# Altium schematic symbol library CS_symbols.SchLib: 156 symbols (part 1 of 2)
Pins are listed as number, name and electrical type; pins without a type are passive.

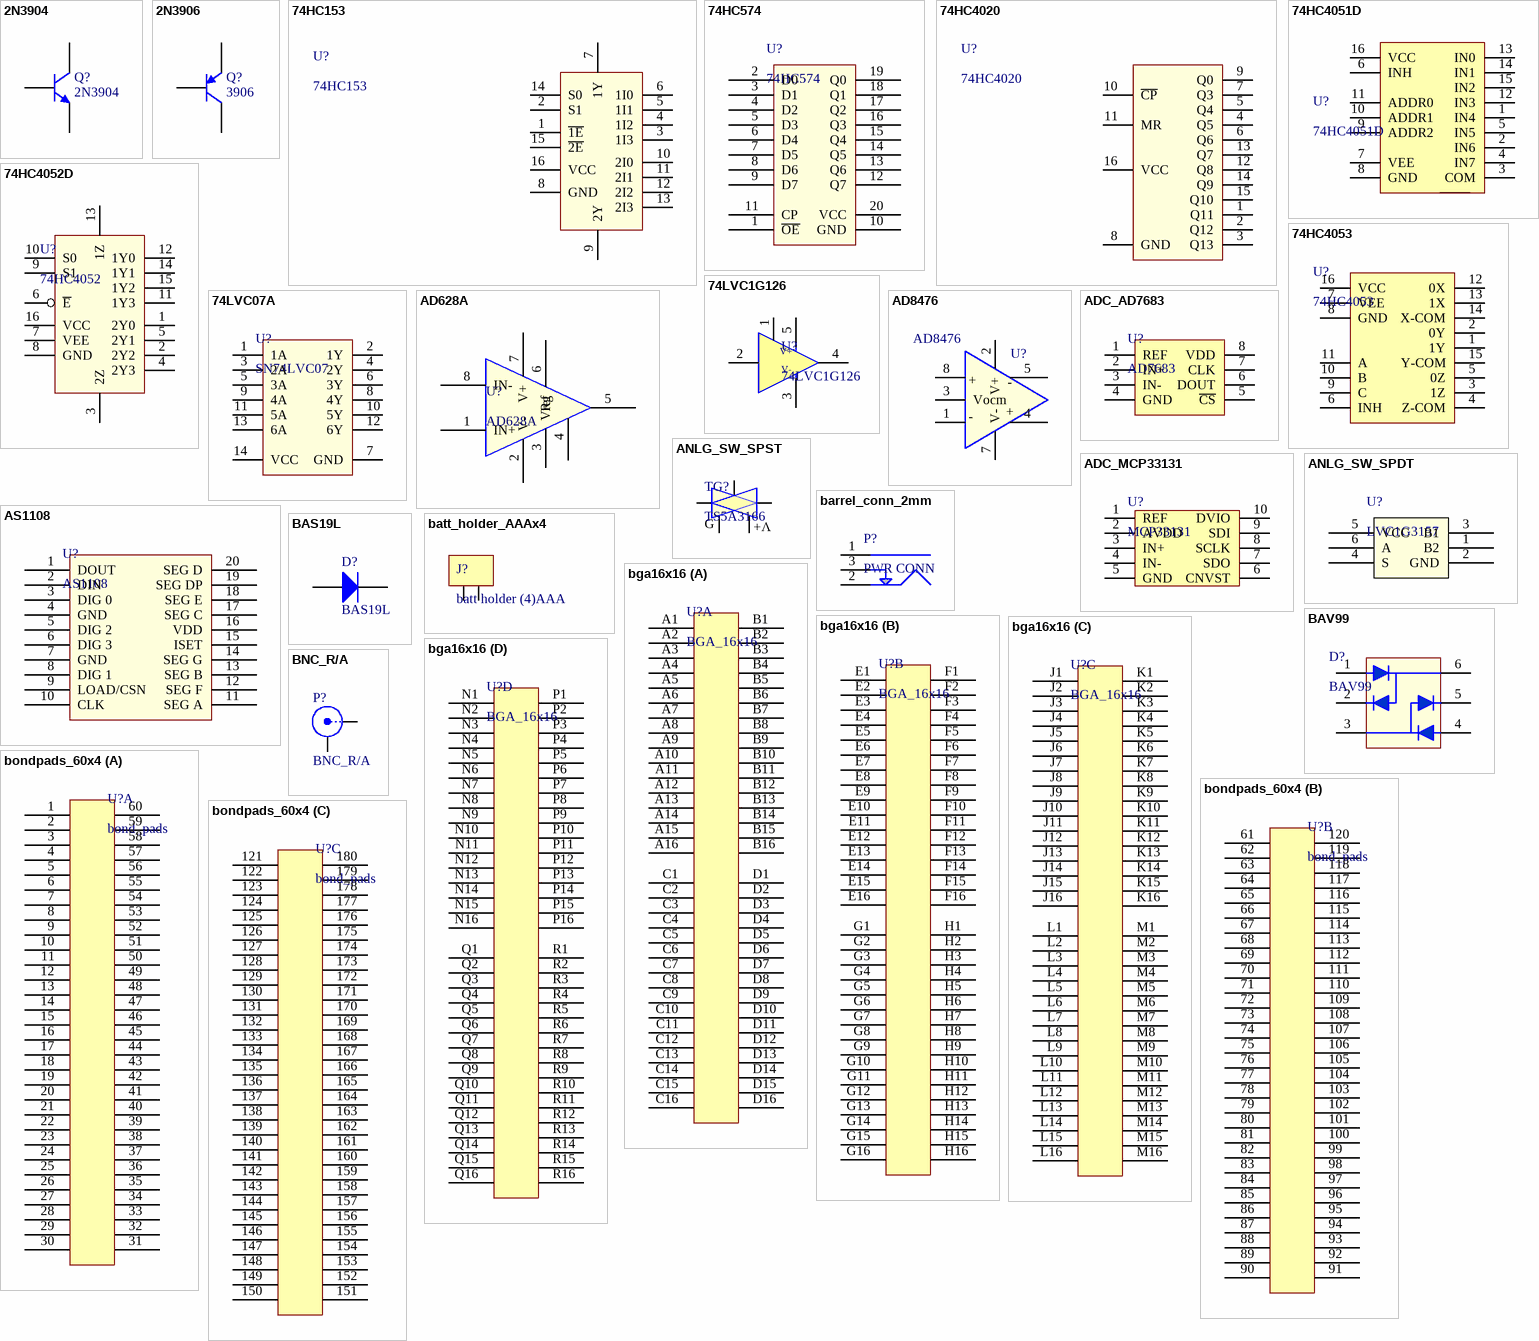
[diagram p0: symbols 2N3904 to bondpads_60x4]

## 2N3904
designator Q?
TRANS NPN 40V 0.2A SOT23; manufacturer: Micro Commercial Co; manufacturer pn: MMBT3904-TP; supplier: digikey; supplier pn: MMBT3904TPMSCT-ND
footprint SOT-23 (Footprint not found)
pins: 1 C, 2 B, 3 E

## 2N3906
designator Q?, comment 3906
TRANS PNP 40V 0.2A SOT23; manufacturer pn: MMBT3906-TP; manufacturer: Micro Commercial Co; supplier pn: MMBT3906-TPCT-ND; supplier: digikey
footprint SOT-23
pins: 1 C, 2 B, 3 E

## 74HC153
designator U?
IC MULTIPLEXER 2 X 4:1 16SOIC; manufacturer: Texas Instruments; manufacturer pn: CD74HCT153M96; supplier: digikey; supplier pn: 296-CD74HCT153M96CT-ND
footprint SOIC-16
pins: 1 ~{1E}, 2 S1, 3 1I3, 4 1I2, 5 1I1, 6 1I0, 7 1Y, 8 GND, 9 2Y, 10 2I0, 11 2I1, 12 2I2, 13 2I3, 14 S0, 15 ~{2E}, 16 VCC

## 74HC574
designator U?
D-type flip-flop; Octal; manufacturer pn: 74HC574PW,118; manufacturer: Nexperia; supplier pn: 1727-4015-1-ND; supplier: digikey
pins: 1 ~{OE}, 2 D0, 3 D1, 4 D2, 5 D3, 6 D4, 7 D5, 8 D6, 9 D7, 10 GND, 11 CP, 12 Q7, 13 Q6, 14 Q5, 15 Q4, 16 Q3, 17 Q2, 18 Q1, 19 Q0, 20 VCC

## 74HC4020
designator U?
14-Stage Binary Ripple Counter; manufacturer: Nexperia; manufacturer pn: 74HCT4020D,653; supplier pn: 1727-7989-1-ND; supplier: digikey
footprint SOIC-16
pins: 1 Q11, 2 Q12, 3 Q13, 4 Q5, 5 Q4, 6 Q6, 7 Q3, 8 GND, 9 Q0, 10 ~{CP}, 11 MR, 12 Q8, 13 Q7, 14 Q9, 15 Q10, 16 VCC

## 74HC4051D
designator U?
IC MUX 8:1 4 OHM 16SOIC; manufacturer: Toshiba; supplier pn: 74HC4051DCT-ND; supplier: digikey; manufacturer pn: 74HC4051D
pins: 1 IN4, 2 IN6, 3 COM, 4 IN7, 5 IN5, 6 INH, 7 VEE, 8 GND, 9 ADDR2, 10 ADDR1, 11 ADDR0, 12 IN3, 13 IN0, 14 IN1, 15 IN2, 16 VCC

## 74HC4052D
designator U?, comment 74HC4052
IC MUX/DEMUX DUAL 4X1 16SOIC; manufacturer: NXP Inc.; manufacturer pn: 74HC4052D,653; supplier: digikey; supplier pn: 1727-2808-1-ND
footprint SOIC-16
pins: 1 2Y0, 2 2Y2, 3 2Z, 4 2Y3, 5 2Y1, 6 ~{E}, 7 VEE, 8 GND, 9 S1, 10 S0, 11 1Y3, 12 1Y0, 13 1Z, 14 1Y1, 15 1Y2, 16 VCC

## 74HC4053
designator U?
IC SWITCH TRIPLE 16SOIC; manufacturer: Toshiba; manufacturer pn: 74HC4053D(BJ); supplier: digikey; supplier pn: 74HC4053D(BJ)CT-ND
footprint SOIC-16
pins: 1 1Y, 2 0Y, 3 1Z, 4 Z-COM, 5 0Z, 6 INH, 7 VEE, 8 GND, 9 C, 10 B, 11 A, 12 0X, 13 1X, 14 X-COM, 15 Y-COM, 16 VCC

## 74LVC1G126
designator U?
IC BUFFER NON-INVERT 5.5V SOT25; manufacturer pn: 74LVC1G126W5-7; manufacturer: Diodes inc; supplier pn: 74LVC1G126W5-7DICT-ND; supplier: digikey
footprint SOT23-5
pins: 1 OE, 2 A, 3 -V (power), 4 Y, 5 +V (power)
text: V+; V-

## 74LVC07A
designator U?, comment SN74LVC07
IC HEX BUF NON-INVERT 5.5V 14SOIC; manufacturer: Texas Instruments; manufacturer pn: SN74LVC07ADR; supplier pn: 296-8441-1-ND; supplier: digikey
footprint SOIC-14 (SOIC, 14-Leads, Body 8.65x3.9mm, Pitch 1.27mm, IPC Medium Density)
pins: 1 1A, 2 1Y, 3 2A, 4 2Y, 5 3A, 6 3Y, 7 GND, 8 4Y, 9 4A, 10 5Y, 11 5A, 12 6Y, 13 6A, 14 VCC

## AD628A
designator U?
Current Sense Differential Amplifier 600kHz; manufacturer pn: AD628ARZ-RL; manufacturer: Analog Devices; supplier: digikey; supplier pn: AD628ARZ-RLCT-ND
footprint Model Name (Footprint not found)
pins: 1 IN+, 2 V-, 3 Vref, 4 Cf, 5 OUT, 6 Rg, 7 V+, 8 IN-

## AD8476
designator U?
IC OPAMP DIFF 1 CIRCUIT 8MSOP; manufacturer pn: AD8476ARMZ-RL; manufacturer: Analog Devices Inc.; supplier: digikey; supplier pn: AD8476ARMZ-RLCT-ND
footprint MSOP-8
pins: 1 IN-, 2 V+, 3 Vocm, 4 Vout+, 5 Vout-, 7 V-, 8 IN+
text: +; -

## ADC_AD7683
designator U?, comment AD7683
IC ADC 16BIT SAR 8MSOP; manufacturer pn: AD7683ARMZRL7; manufacturer: Analog Devices; supplier: digikey; supplier pn: AD7683ARMZRL7CT-ND
footprint MSOP-8
pins: 1 REF, 2 IN+, 3 IN-, 4 GND, 5 ~{CS}, 6 DOUT, 7 CLK, 8 VDD

## ADC_MCP33131
designator U?, comment MCP33131
IC ADC 16BIT SAR 10MSOP; manufacturer pn: MCP33131D-10T-I/MS; manufacturer: Microchip Technology; supplier: digikey; supplier pn: MCP33131D-10T-I/MSCT-ND
footprint MSOP-10
pins: 1 REF, 2 AVDD, 3 IN+, 4 IN-, 5 GND, 6 CNVST, 7 SDO, 8 SCLK, 9 SDI, 10 DVIO

## ANLG_SW_SPDT
designator U?, comment LVC1G3157
IC SWITCH SPDT X 1 15OHM SOT23-6; manufacturer: Texas Instruments; manufacturer pn: SN74LVC1G3157DBVR; supplier: digikey; supplier pn: 296-14908-1-ND
footprint SOT23-6
pins: 1 B2 "zener diode cathode", 2 GND "zener diode cathode", 3 B1 "zener diode cathode", 4 S "zener diode cathode", 5 VCC "zener diode cathode", 6 A "zener diode cathode"

## ANLG_SW_SPST
designator TG?, comment TS5A3166
IC SW SPST-NOX1 900MOHM SOT23-5; manufacturer pn: TS5A3166DBVR; manufacturer: Texas Instruments; supplier: digikey; supplier pn: 296-17740-1-ND
footprint SOT23-5
pins: 1 IN "zener diode cathode", 2 OUT "zener diode cathode", 3 GND "zener diode cathode", 4 CTL "zener diode cathode", 5 V+ "zener diode cathode"
text: G

## AS1108
designator U?
IC DRVR 7 SEGMNT 4 DIGIT 20SOIC; manufacturer: AMS; manufacturer pn: AS1108WL-T; supplier: digikey; supplier pn: AS1108WL-TCT-ND
footprint SOIC-20 (small outline integrated ciecuit 20-pin)
pins: 1 DOUT, 2 DIN, 3 DIG 0, 4 GND, 5 DIG 2, 6 DIG 3, 7 GND, 8 DIG 1, 9 LOAD/CSN, 10 CLK, 11 SEG A, 12 SEG F, 13 SEG B, 14 SEG G, 15 ISET, 16 VDD, 17 SEG C, 18 SEG E, 19 SEG DP, 20 SEG D

## barrel_conn_2mm
designator P?, comment PWR CONN
CONN PWR JACK 2X5.5MM KINKED PIN; manufacturer: CUI Int; manufacturer pn: PJ-202A; supplier: digikey; supplier pn: CP-202A-ND
footprint barrel_conn_2mm (Power Barrel connector Jack 2.0mm ID, 5.5mm OD)
pins: 1 CTR, 2 SHIELD, 3 SENSE

## BAS19L
designator D?
DIODE GP 120V 200MA SOT23-3; manufacturer: On Semiconductor; manufacturer pn: BAS19LT3G; supplier pn: BAS19LT3GOSCT-ND; supplier: digikey
footprint SOT-23
pins: 1 K, 2 A

## batt_holder_AAAx4
designator J?, comment batt holder (4)AAA
2-pin jumper; manufacturer: Keystone Electronics; manufacturer pn: 2481; supplier: digikey; supplier pn: 36-2481-ND
pins: 1, 2

## BAV99
designator D?
DIODE SW 75V 215MA SOT363; manufacturer: Diodes Inc.; manufacturer pn: BAV99DWQ-7-F; supplier: digikey; supplier pn: BAV99DWQ-7-FDICT-ND
footprint SOT363 (Footprint not found)
pins: 1 A1, 2 C1, 3 AC2, 4 A2, 5 C2, 6 AC1

## bga16x16
designator U?, comment BGA_16x16
bga used in wirebonding board
footprint die_balls (pads to be balled on bottom side of die breakout board)
part A pins: A1, A2, A3, A4, A5, A6, A7, A8, A9, A10, A11, A12, A13, A14, A15, A16, B1, B2, B3, B4, B5, B6, B7, B8, B9, B10, B11, B12, B13, B14, B15, B16, C1, C2, C3, C4, C5, C6, C7, C8, C9, C10, C11, C12, C13, C14, C15, C16, D1, D2, D3, D4, D5, D6, D7, D8, D9, D10, D11, D12, D13, D14, D15, D16
part B pins: E1, E2, E3, E4, E5, E6, E7, E8, E9, E10, E11, E12, E13, E14, E15, E16, F1, F2, F3, F4, F5, F6, F7, F8, F9, F10, F11, F12, F13, F14, F15, F16, G1, G2, G3, G4, G5, G6, G7, G8, G9, G10, G11, G12, G13, G14, G15, G16, H1, H2, H3, H4, H5, H6, H7, H8, H9, H10, H11, H12, H13, H14, H15, H16
part C pins: J1, J2, J3, J4, J5, J6, J7, J8, J9, J10, J11, J12, J13, J14, J15, J16, K1, K2, K3, K4, K5, K6, K7, K8, K9, K10, K11, K12, K13, K14, K15, K16, L1, L2, L3, L4, L5, L6, L7, L8, L9, L10, L11, L12, L13, L14, L15, L16, M1, M2, M3, M4, M5, M6, M7, M8, M9, M10, M11, M12, M13, M14, M15, M16
part D pins: N1, N2, N3, N4, N5, N6, N7, N8, N9, N10, N11, N12, N13, N14, N15, N16, P1, P2, P3, P4, P5, P6, P7, P8, P9, P10, P11, P12, P13, P14, P15, P16, Q1, Q2, Q3, Q4, Q5, Q6, Q7, Q8, Q9, Q10, Q11, Q12, Q13, Q14, Q15, Q16, R1, R2, R3, R4, R5, R6, R7, R8, R9, R10, R11, R12, R13, R14, R15, R16

## BNC_R/A
designator P?
CONN BNC RCPT R/A 50 OHM PCB; manufacturer: Molex; manufacturer pn: 0731375003; supplier: digikey; supplier pn: WM5514-ND
footprint BNC_R/A (Right Angle BNC Connector PCB Mount)
pins: 1 PIN, 2 SHIELD

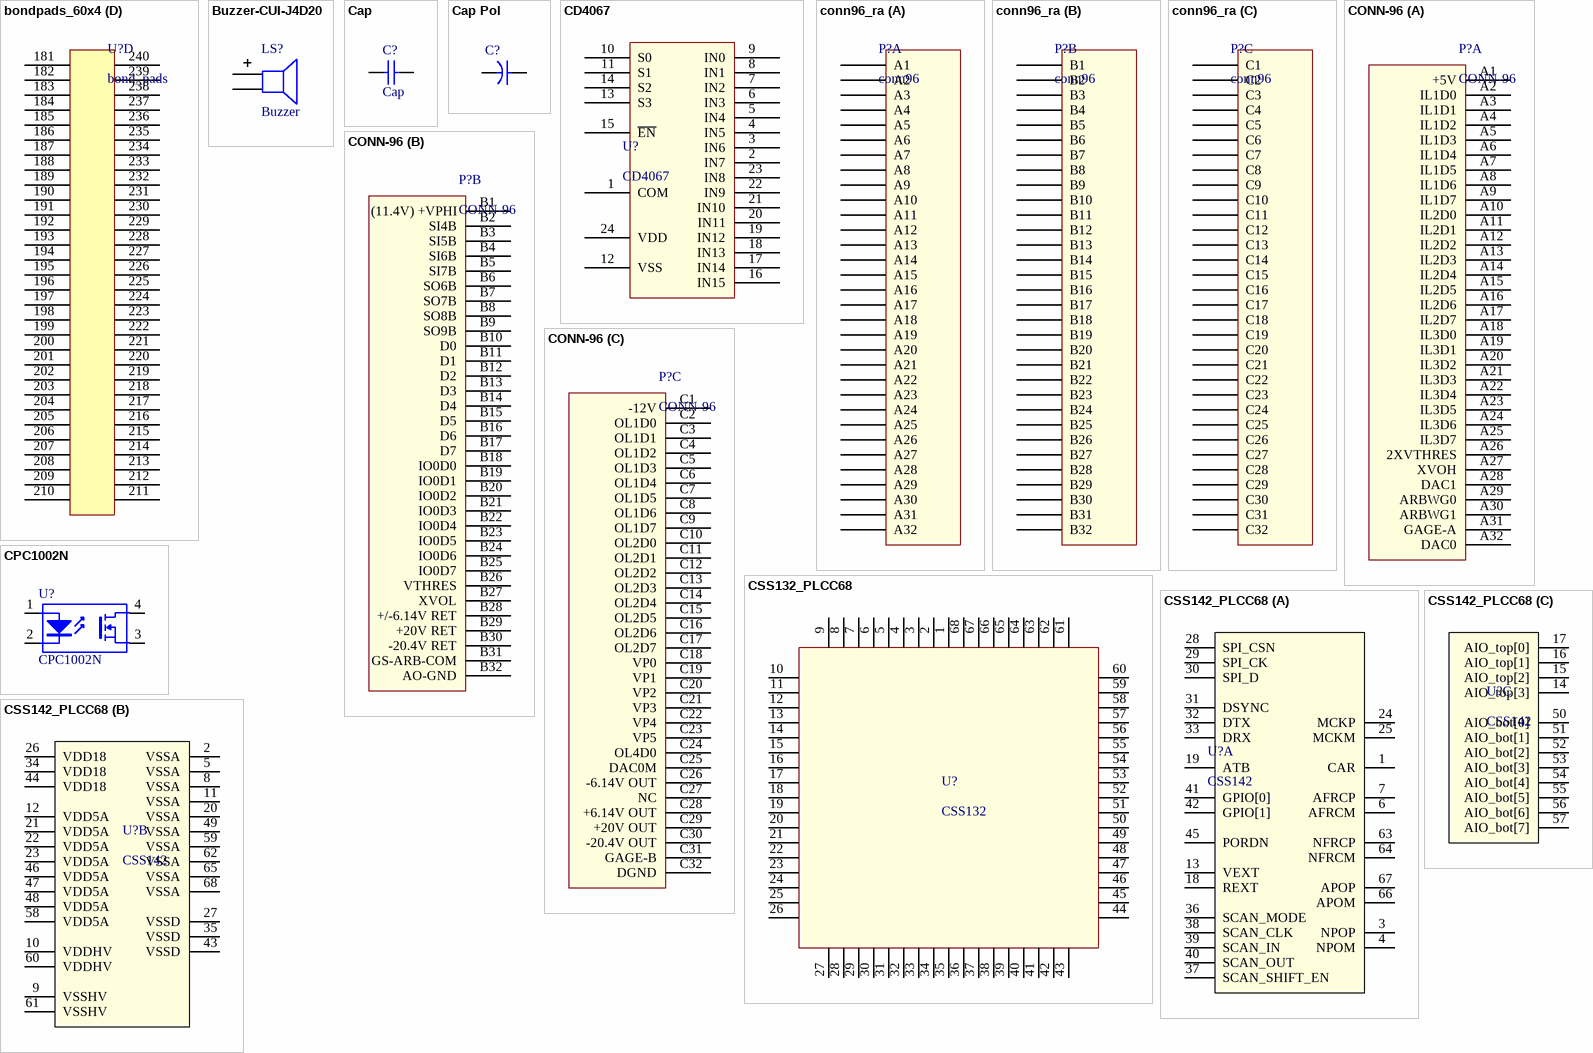
[diagram p1: symbols bondpads_60x4 to CSS142_PLCC68]

## bondpads_60x4
designator U?, comment bond_pads
wirebond pads 3mil x 5mil arranged in a square
footprint wirebond_pads_4x60 (group of 4x60 wirebond pads 5mil wide, 3mil high, 3mil spacing)
part A pins: 1, 2, 3, 4, 5, 6, 7, 8, 9, 10, 11, 12, 13, 14, 15, 16, 17, 18, 19, 20, 21, 22, 23, 24, 25, 26, 27, 28, 29, 30, 31, 32, 33, 34, 35, 36, 37, 38, 39, 40, 41, 42, 43, 44, 45, 46, 47, 48, 49, 50, 51, 52, 53, 54, 55, 56, 57, 58, 59, 60
part B pins: 61, 62, 63, 64, 65, 66, 67, 68, 69, 70, 71, 72, 73, 74, 75, 76, 77, 78, 79, 80, 81, 82, 83, 84, 85, 86, 87, 88, 89, 90, 91, 92, 93, 94, 95, 96, 97, 98, 99, 100, 101, 102, 103, 104, 105, 106, 107, 108, 109, 110, 111, 112, 113, 114, 115, 116, 117, 118, 119, 120
part C pins: 121, 122, 123, 124, 125, 126, 127, 128, 129, 130, 131, 132, 133, 134, 135, 136, 137, 138, 139, 140, 141, 142, 143, 144, 145, 146, 147, 148, 149, 150, 151, 152, 153, 154, 155, 156, 157, 158, 159, 160, 161, 162, 163, 164, 165, 166, 167, 168, 169, 170, 171, 172, 173, 174, 175, 176, 177, 178, 179, 180
part D pins: 181, 182, 183, 184, 185, 186, 187, 188, 189, 190, 191, 192, 193, 194, 195, 196, 197, 198, 199, 200, 201, 202, 203, 204, 205, 206, 207, 208, 209, 210, 211, 212, 213, 214, 215, 216, 217, 218, 219, 220, 221, 222, 223, 224, 225, 226, 227, 228, 229, 230, 231, 232, 233, 234, 235, 236, 237, 238, 239, 240

## Buzzer-CUI-J4D20
designator LS?, comment Buzzer
AUDIO MAGNETIC XDCR 3-5V SMD; manufacturer: CUI Devices; manufacturer pn: CSS-J4D20-SMT-TR; supplier pn: 102-1198-1-ND; supplier: digikey
footprint Buzzer_J4D20 (AUDIO MAGNETIC XDCR 3-5V SMD)
pins: 1, 2

## Cap
designator C?
Cap NP
pins: 1, 2

## Cap Pol
designator C?, comment CapPol  (value not drawn)
Cap Polarized
footprint RB7.6-15 (Polarized Capacitor (Radial); 2 Leads)
simulation model CAP (Capacitor)
signal-integrity model Cap Pol
pins: 1, 2
1 alternate drawing of the same symbol

## CD4067
designator U?
IC MUX/DEMUX 1X16 24TSSOP; manufacturer: Texas Instruments; manufacturer pn: CD4067BPWR; supplier: digikey; supplier pn: 296-44349-1-ND
pins: 1 COM, 2 IN7, 3 IN6, 4 IN5, 5 IN4, 6 IN3, 7 IN2, 8 IN1, 9 IN0, 10 S0, 11 S1, 12 VSS, 13 S3, 14 S2, 15 ~{EN}, 16 IN15, 17 IN14, 18 IN13, 19 IN12, 20 IN11, 21 IN10, 22 IN9, 23 IN8, 24 VDD

## conn96_ra
designator P?, comment conn96
connector 96-pin right angle 32x3; manufacturer pn: RE96MSR-062; manufacturer: Vector Electronics; supplier pn: V1235-ND; supplier: digikey
footprint conn-96_RA (96-pin connector, 3 rows, right angle)
part A pins: A1, A2, A3, A4, A5, A6, A7, A8, A9, A10, A11, A12, A13, A14, A15, A16, A17, A18, A19, A20, A21, A22, A23, A24, A25, A26, A27, A28, A29, A30, A31, A32
part B pins: B1, B2, B3, B4, B5, B6, B7, B8, B9, B10, B11, B12, B13, B14, B15, B16, B17, B18, B19, B20, B21, B22, B23, B24, B25, B26, B27, B28, B29, B30, B31, B32
part C pins: C1, C2, C3, C4, C5, C6, C7, C8, C9, C10, C11, C12, C13, C14, C15, C16, C17, C18, C19, C20, C21, C22, C23, C24, C25, C26, C27, C28, C29, C30, C31, C32

## CONN-96
designator P?
connector 96-pin male right angle 32x3; manufacturer pn: RE96MSR-062; manufacturer: Vector Electronics; supplier pn: V1235-ND; supplier: digikey
footprint conn-96_RA (96-pin connector, 3 rows, right angle)
part A pins: A1 +5V, A2 IL1D0, A3 IL1D1, A4 IL1D2, A5 IL1D3, A6 IL1D4, A7 IL1D5, A8 IL1D6, A9 IL1D7, A10 IL2D0, A11 IL2D1, A12 IL2D2, A13 IL2D3, A14 IL2D4, A15 IL2D5, A16 IL2D6, A17 IL2D7, A18 IL3D0, A19 IL3D1, A20 IL3D2, A21 IL3D3, A22 IL3D4, A23 IL3D5, A24 IL3D6, A25 IL3D7, A26 2XVTHRES, A27 XVOH, A28 DAC1, A29 ARBWG0, A30 ARBWG1, A31 GAGE-A, A32 DAC0
part B pins: B1 (11.4V) +VPHI, B2 SI4B, B3 SI5B, B4 SI6B, B5 SI7B, B6 SO6B, B7 SO7B, B8 SO8B, B9 SO9B, B10 D0, B11 D1, B12 D2, B13 D3, B14 D4, B15 D5, B16 D6, B17 D7, B18 IO0D0, B19 IO0D1, B20 IO0D2, B21 IO0D3, B22 IO0D4, B23 IO0D5, B24 IO0D6, B25 IO0D7, B26 VTHRES, B27 XVOL, B28 +/-6.14V RET, B29 +20V RET, B30 -20.4V RET, B31 GS-ARB-COM, B32 AO-GND
part C pins: C1 -12V, C2 OL1D0, C3 OL1D1, C4 OL1D2, C5 OL1D3, C6 OL1D4, C7 OL1D5, C8 OL1D6, C9 OL1D7, C10 OL2D0, C11 OL2D1, C12 OL2D2, C13 OL2D3, C14 OL2D4, C15 OL2D5, C16 OL2D6, C17 OL2D7, C18 VP0, C19 VP1, C20 VP2, C21 VP3, C22 VP4, C23 VP5, C24 OL4D0, C25 DAC0M, C26 -6.14V OUT, C27 NC, C28 +6.14V OUT, C29 +20V OUT, C30 -20.4V OUT, C31 GAGE-B, C32 DGND

## CPC1002N
designator U?
4-Pin Phototransistor Optocoupler; manufacturer: IXYS; supplier pn: CLA221-ND; supplier: digikey; manufacturer pn: CPC1002N
pins: 1 A "Anode", 2 K "Cathode", 3 S "Emitter", 4 D "Collector"

## CSS132_PLCC68
designator U?, comment CSS132
CSS132 gyro ic in a PLCC68 prototyping package; manufacturer: Kyocera Corp; manufacturer pn: CCJ06828; supplier pn: CCJ06828; supplier: Spectrum Semiconductor
footprint socket_PLCC68 (68-pin thru-hole socket for PLCC package)
pins: 1, 2, 3, 4, 5, 6, 7, 8, 9, 10, 11, 12, 13, 14, 15, 16, 17, 18, 19, 20, 21, 22, 23, 24, 25, 26, 27, 28, 29, 30, 31, 32, 33, 34, 35, 36, 37, 38, 39, 40, 41, 42, 43, 44, 45, 46, 47, 48, 49, 50, 51, 52, 53, 54, 55, 56, 57, 58, 59, 60, 61, 62, 63, 64, 65, 66, 67, 68

## CSS142_PLCC68
designator U?, comment CSS142
CONN SOCKET PLCC 68POS PHOS BRNZ; manufacturer: Adam Tech; manufacturer pn: PLCC-68-AT-SMT; supplier pn: 2057-PLCC-68-AT-SMT-ND; supplier: digikey
footprint socket_PLCC68_smt (Footprint not found)
part A pins: 1 CAR, 3 NPOP, 4 NPOM, 6 AFRCM, 7 AFRCP, 13 VEXT, 18 REXT, 19 ATB, 24 MCKP, 25 MCKM, 28 SPI_CSN, 29 SPI_CK, 30 SPI_D, 31 DSYNC, 32 DTX, 33 DRX, 36 SCAN_MODE, 37 SCAN_SHIFT_EN, 38 SCAN_CLK, 39 SCAN_IN, 40 SCAN_OUT, 41 GPIO[0], 42 GPIO[1], 45 PORDN, 63 NFRCP, 64 NFRCM, 66 APOM, 67 APOP
part B pins: 2 VSSA, 5 VSSA, 8 VSSA, 9 VSSHV, 10 VDDHV, 11 VSSA, 12 VDD5A, 20 VSSA, 21 VDD5A, 22 VDD5A, 23 VDD5A, 26 VDD18, 27 VSSD, 34 VDD18, 35 VSSD, 43 VSSD, 44 VDD18, 46 VDD5A, 47 VDD5A, 48 VDD5A, 49 VSSA, 58 VDD5A, 59 VSSA, 60 VDDHV, 61 VSSHV, 62 VSSA, 65 VSSA, 68 VSSA
part C pins: 14 AIO_top[3], 15 AIO_top[2], 16 AIO_top[1], 17 AIO_top[0], 50 AIO_bot[0], 51 AIO_bot[1], 52 AIO_bot[2], 53 AIO_bot[3], 54 AIO_bot[4], 55 AIO_bot[5], 56 AIO_bot[6], 57 AIO_bot[7]

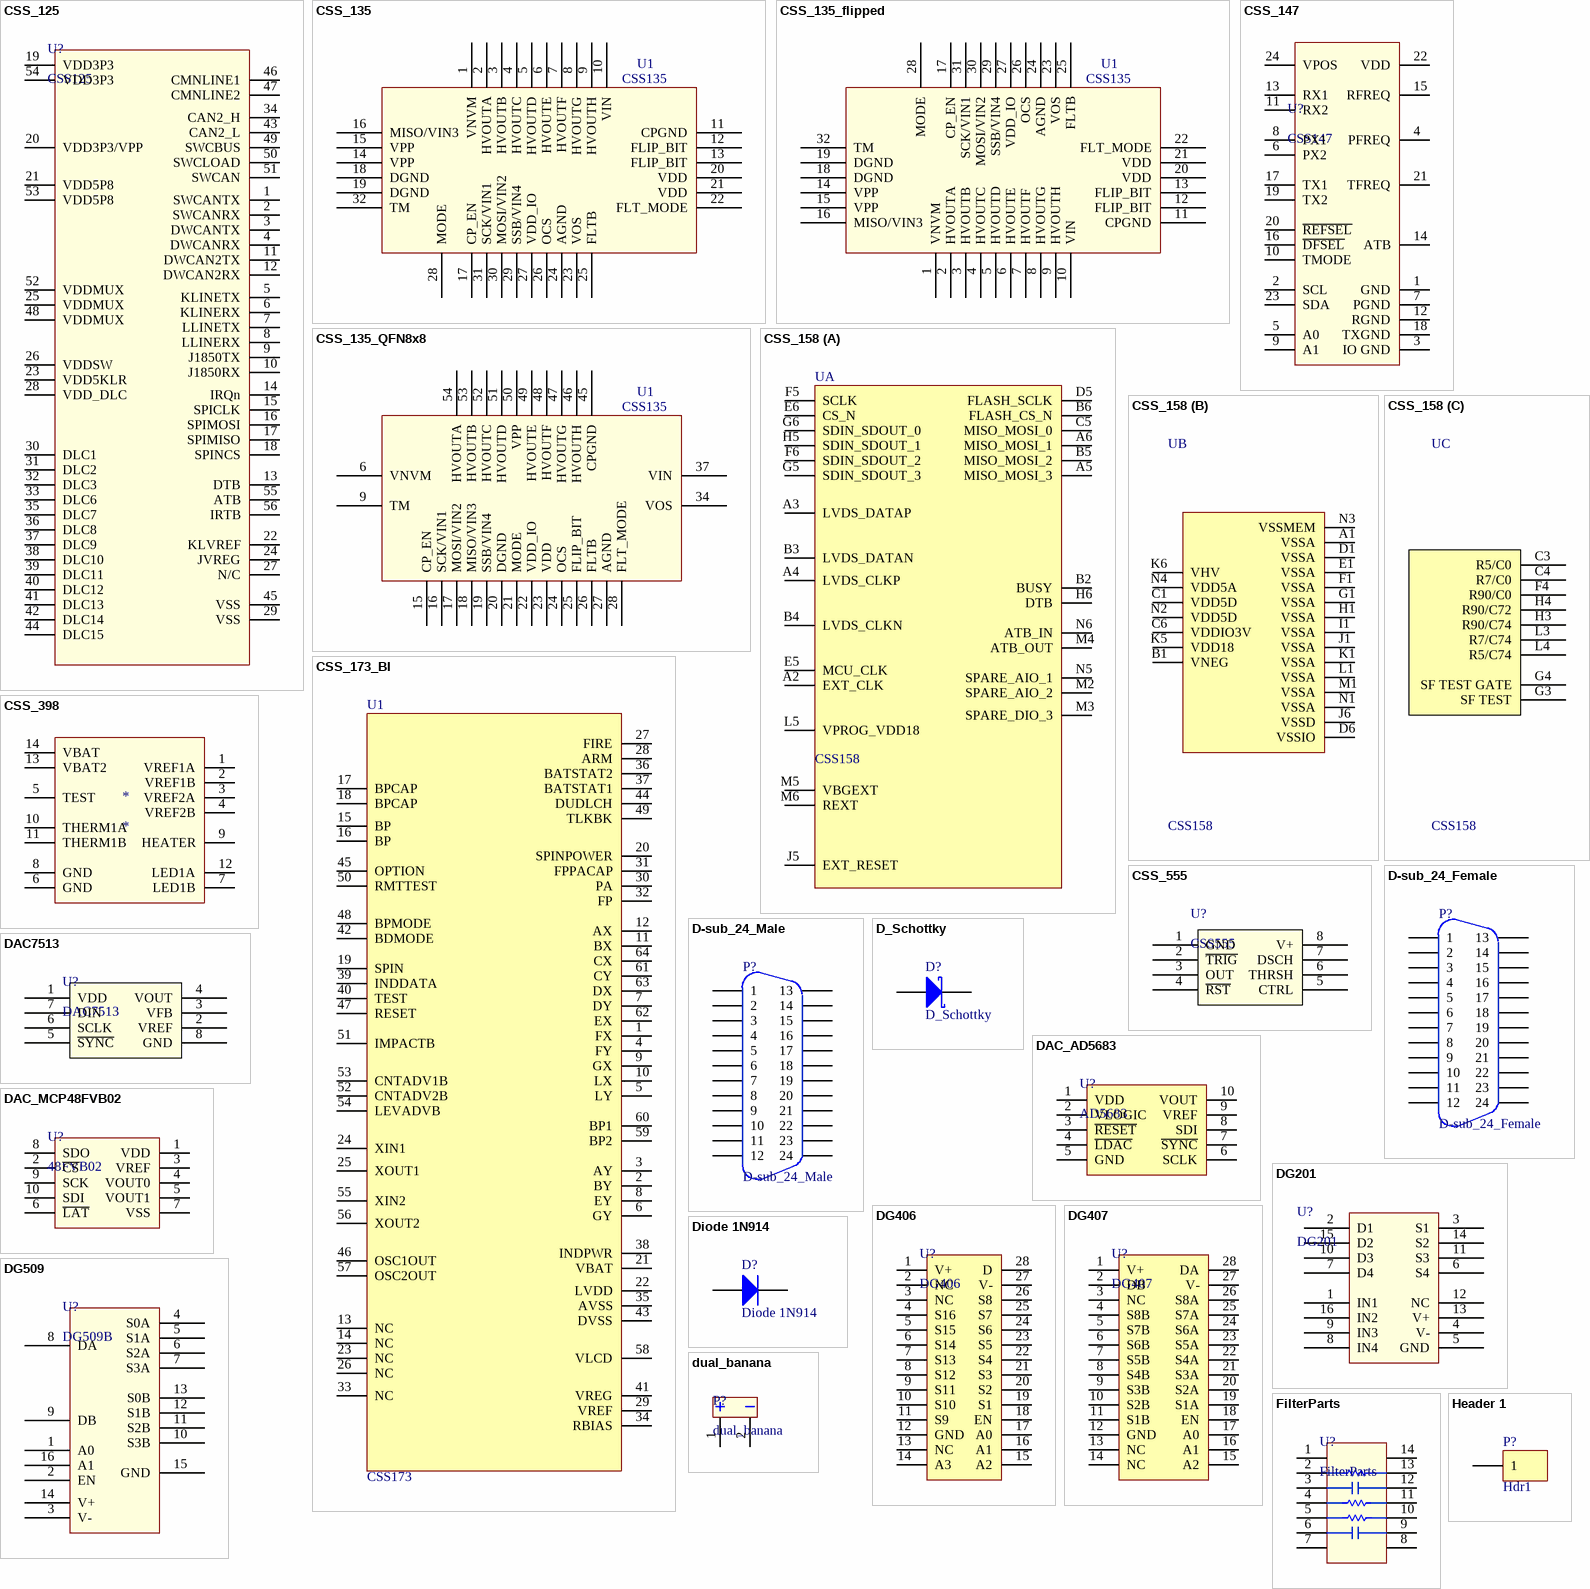
[diagram p2: symbols CSS_125 to Header 1]

## CSS_125
designator U?, comment CSS125
CSS Toucan IC for Innova
pins: 1 SWCANTX, 2 SWCANRX, 3 DWCANTX, 4 DWCANRX, 5 KLINETX, 6 KLINERX, 7 LLINETX, 8 LLINERX, 9 J1850TX, 10 J1850RX, 11 DWCAN2TX, 12 DWCAN2RX, 13 DTB, 14 IRQn, 15 SPICLK, 16 SPIMOSI, 17 SPIMISO, 18 SPINCS, 19 VDD3P3, 20 VDD3P3/VPP, 21 VDD5P8, 22 KLVREF, 23 VDD5KLR, 24 JVREG, 25 VDDMUX, 26 VDDSW, 27 N/C, 28 VDD_DLC, 29 VSS, 30 DLC1, 31 DLC2, 32 DLC3, 33 DLC6, 34 CAN2_H, 35 DLC7, 36 DLC8, 37 DLC9, 38 DLC10, 39 DLC11, 40 DLC12, 41 DLC13, 42 DLC14, 43 CAN2_L, 44 DLC15, 45 VSS, 46 CMNLINE1, 47 CMNLINE2, 48 VDDMUX, 49 SWCBUS, 50 SWCLOAD, 51 SWCAN, 52 VDDMUX, 53 VDD5P8, 54 VDD3P3, 55 ATB, 56 IRTB

## CSS_135
designator U1, comment CSS135
CSS135 8-CHANNEL MEMS GATE DRIVER
footprint CSS_135 (BGA footprint for CSS135 flip-chip IC)
pins: 1 VNVM, 2 HVOUTA, 3 HVOUTB, 4 HVOUTC, 5 HVOUTD, 6 HVOUTE, 7 HVOUTF, 8 HVOUTG, 9 HVOUTH, 10 VIN, 11 CPGND, 12 FLIP_BIT, 13 FLIP_BIT, 14 VPP, 15 VPP, 16 MISO/VIN3, 17 CP_EN, 18 DGND, 19 DGND, 20 VDD, 21 VDD, 22 FLT_MODE, 23 VOS, 24 AGND, 25 FLTB, 26 OCS, 27 VDD_IO, 28 MODE, 29 SSB/VIN4, 30 MOSI/VIN2, 31 SCK/VIN1, 32 TM

## CSS_135_flipped
designator U1, comment CSS135
CSS135 8-CHANNEL MEMS GATE DRIVER
footprint CSS_135 (BGA footprint for CSS135 flip-chip IC)
pins: 1 VNVM, 2 HVOUTA, 3 HVOUTB, 4 HVOUTC, 5 HVOUTD, 6 HVOUTE, 7 HVOUTF, 8 HVOUTG, 9 HVOUTH, 10 VIN, 11 CPGND, 12 FLIP_BIT, 13 FLIP_BIT, 14 VPP, 15 VPP, 16 MISO/VIN3, 17 CP_EN, 18 DGND, 19 DGND, 20 VDD, 21 VDD, 22 FLT_MODE, 23 VOS, 24 AGND, 25 FLTB, 26 OCS, 27 VDD_IO, 28 MODE, 29 SSB/VIN4, 30 MOSI/VIN2, 31 SCK/VIN1, 32 TM

## CSS_135_QFN8x8
designator U1, comment CSS135
CSS135 8-CHANNEL MEMS GATE DRIVER QFN 8X8 PROTO
footprint CSS_135 (BGA footprint for CSS135 flip-chip IC)
pins: 6 VNVM, 9 TM, 15 CP_EN, 16 SCK/VIN1, 17 MOSI/VIN2, 18 MISO/VIN3, 19 SSB/VIN4, 20 DGND, 21 MODE, 22 VDD_IO, 23 VDD, 24 OCS, 25 FLIP_BIT, 26 FLTB, 27 AGND, 28 FLT_MODE, 34 VOS, 37 VIN, 45 CPGND, 46 HVOUTH, 47 HVOUTG, 48 HVOUTF, 49 HVOUTE, 50 VPP, 51 HVOUTD, 52 HVOUTC, 53 HVOUTB, 54 HVOUTA

## CSS_147
designator U?, comment CSS147
CSS Spartek IC
pins: 1 GND, 2 SCL, 3 IO GND, 4 PFREQ, 5 A0, 6 PX2, 7 PGND, 8 PX1, 9 A1, 10 TMODE, 11 RX2, 12 RGND, 13 RX1, 14 ATB, 15 RFREQ, 16 ~{DFSEL}, 17 TX1, 18 TXGND, 19 TX2, 20 ~{REFSEL}, 21 TFREQ, 22 VDD, 23 SDA, 24 VPOS

## CSS_158
designator U, comment CSS158
SD Optics MEMS Driver IC
part A pins: A2 EXT_CLK, A3 LVDS_DATAP, A4 LVDS_CLKP, A5 MISO_MOSI_3, A6 MISO_MOSI_1, B2 BUSY, B3 LVDS_DATAN, B4 LVDS_CLKN, B5 MISO_MOSI_2, B6 FLASH_CS_N, C5 MISO_MOSI_0, D5 FLASH_SCLK, E5 MCU_CLK, E6 CS_N, F5 SCLK, F6 SDIN_SDOUT_2, G5 SDIN_SDOUT_3, G6 SDIN_SDOUT_0, H5 SDIN_SDOUT_1, H6 DTB, J5 EXT_RESET, L5 VPROG_VDD18, M2 SPARE_AIO_2, M3 SPARE_DIO_3, M4 ATB_OUT, M5 VBGEXT, M6 REXT, N5 SPARE_AIO_1, N6 ATB_IN
part B pins: A1 VSSA, B1 VNEG, C1 VDD5D, C6 VDDIO3V, D1 VSSA, D6 VSSIO, E1 VSSA, F1 VSSA, G1 VSSA, H1 VSSA, I1 VSSA, J1 VSSA, J6 VSSD, K1 VSSA, K5 VDD18, K6 VHV, L1 VSSA, M1 VSSA, N1 VSSA, N2 VDD5D, N3 VSSMEM, N4 VDD5A
part C pins: C3 R5/C0 "zener diode cathode", C4 R7/C0 "zener diode cathode", F4 R90/C0 "zener diode cathode", G3 SF TEST "zener diode cathode", G4 SF TEST GATE "zener diode cathode", H3 R90/C74 "zener diode cathode", H4 R90/C72 "zener diode cathode", L3 R7/C74 "zener diode cathode", L4 R5/C74 "zener diode cathode"

## CSS_173_BI
designator U1, comment CSS173
L3 Harris - Fuze ASIC
footprint SOCKET_QFN64 (Yamaichi Socket for QFN64 9mm x 9mm, 0.5mm pitch)
pins: 1 FX, 2 BY, 3 AY, 4 FY, 5 LY, 6 GY, 7 DY, 8 EY, 9 GX, 10 LX, 11 BX, 12 AX, 13 NC, 14 NC, 15 BP, 16 BP, 17 BPCAP, 18 BPCAP, 19 SPIN, 20 SPINPOWER, 21 VBAT, 22 LVDD, 23 NC, 24 XIN1, 25 XOUT1, 26 NC, 27 FIRE, 28 ARM, 29 VREF, 30 PA, 31 FPPACAP, 32 FP, 33 NC, 34 RBIAS, 35 AVSS, 36 BATSTAT2, 37 BATSTAT1, 38 INDPWR, 39 INDDATA, 40 TEST, 41 VREG, 42 BDMODE, 43 DVSS, 44 DUDLCH, 45 OPTION, 46 OSC1OUT, 47 RESET, 48 BPMODE, 49 TLKBK, 50 RMTTEST, 51 IMPACTB, 52 CNTADV2B, 53 CNTADV1B, 54 LEVADVB, 55 XIN2, 56 XOUT2, 57 OSC2OUT, 58 VLCD, 59 BP2, 60 BP1, 61 CY, 62 EX, 63 DX, 64 CX

## CSS_398
designator *
CSS398 Candle IC
pins: 1 VREF1A, 2 VREF1B, 3 VREF2A, 4 VREF2B, 5 TEST, 6 GND, 7 LED1B, 8 GND, 9 HEATER, 10 THERM1A, 11 THERM1B, 12 LED1A, 13 VBAT2, 14 VBAT

## CSS_555
designator U?, comment CSS555
Micropower Timer
footprint SOIC-8 (SOIC, 8-Leads, Pitch 1.27mm, IPC Medium Density)
pins: 1 GND "zener diode cathode", 2 ~{TRIG} "zener diode cathode", 3 OUT "zener diode cathode", 4 ~{RST} "zener diode cathode", 5 CTRL "zener diode cathode", 6 THRSH "zener diode cathode", 7 DSCH "zener diode cathode", 8 V+ "zener diode cathode"

## D-sub_24_Female
designator P?
CONN SCSI RCPT 24POS R/A SOLDER; manufacturer: NorComp Inc; manufacturer pn: 112-024-213R001; supplier pn: 1024RFA-ND; supplier: digikey
footprint D-sub24_SCSI_Fem (Footprint not found)
signal-integrity model Connector ([Unknown model type, plugin missing])
pins: 1, 2, 3, 4, 5, 6, 7, 8, 9, 10, 11, 12, 13, 14, 15, 16, 17, 18, 19, 20, 21, 22, 23, 24

## D-sub_24_Male
designator P?
CONN SCSI PLUG 24POS R/A SOLDER; manufacturer: NorComp Inc; manufacturer pn: 112-024-113R001; supplier pn: 1024RMA-ND; supplier: digikey
footprint D-sub24_SCSI_Male (Footprint not found)
signal-integrity model Connector
pins: 1, 2, 3, 4, 5, 6, 7, 8, 9, 10, 11, 12, 13, 14, 15, 16, 17, 18, 19, 20, 21, 22, 23, 24

## D_Schottky
designator D?
DIODE SCHOTTKY 100V 200MA SOD523; manufacturer: Diodes Inc.; manufacturer pn: BAT41KFILM; supplier: digikey; supplier pn: 497-5556-1-ND
footprint SOD-523 (surface mount diode)
pins: 1 A, 2 K

## DAC7513
designator U?
IC DAC 12BIT V-OUT 8VSSOP; manufacturer: TI; manufacturer pn: DAC7513E/2K5; supplier pn: 296-38919-1-ND; supplier: digikey
footprint VSSOP-8
pins: 1 VDD "zener diode cathode", 2 VREF "zener diode cathode", 3 VFB "zener diode cathode", 4 VOUT "zener diode cathode", 5 ~{SYNC} "zener diode cathode", 6 SCLK "zener diode cathode", 7 DIN "zener diode cathode", 8 GND "zener diode cathode"

## DAC_AD5683
designator U?, comment AD5683
IC DAC 16BIT V-OUT 10MSOP; manufacturer: Analog Devices; manufacturer pn: AD5683RBRMZ-RL7; supplier: digikey; supplier pn: AD5683RBRMZ-RL7CT-ND
footprint MSOP-10
pins: 1 VDD, 2 VLOGIC, 3 ~{RESET}, 4 ~{LDAC}, 5 GND, 6 SCLK, 7 ~{SYNC}, 8 SDI, 9 VREF, 10 VOUT

## DAC_MCP48FVB02
designator U?, comment 48FVB02
IC DAC 8BIT V-OUT 10MSOP; manufacturer: Microchip Technologies; manufacturer pn: MCP48FVB02-E/UN; supplier: digikey; supplier pn: MCP48FVB02-E/UN-ND
footprint MSOP-10
pins: 1 VDD, 2 ~{CS}, 3 VREF, 4 VOUT0, 5 VOUT1, 6 ~{LAT}, 7 VSS, 8 SDO, 9 SCK, 10 SDI

## DG201
designator U?
IC SWITCH QUAD SPST 16SOIC; manufacturer: Vishay Siliconix; manufacturer pn: DG201BDY-T1-E3; supplier: digikey; supplier pn: DG201BDY-T1-E3CT-ND
pins: 1 IN1, 2 D1, 3 S1, 4 V-, 5 GND, 6 S4, 7 D4, 8 IN4, 9 IN3, 10 D3, 11 S3, 12 NC, 13 V+, 14 S2, 15 D2, 16 IN2

## DG406
designator U?
IC MULTIPLEXER 16X1 28SOIC; manufacturer: Renesas Electronics; manufacturer pn: DG406DYZ-T; supplier: digikey; supplier pn: DG406DYZ-TCT-ND
footprint SOIC-28
pins: 1 V+, 2 NC, 3 NC, 4 S16, 5 S15, 6 S14, 7 S13, 8 S12, 9 S11, 10 S10, 11 S9, 12 GND, 13 NC, 14 A3, 15 A2, 16 A1, 17 A0, 18 EN, 19 S1, 20 S2, 21 S3, 22 S4, 23 S5, 24 S6, 25 S7, 26 S8, 27 V-, 28 D

## DG407
designator U?
IC MULTIPLEXER DUAL 8X1 28SOIC; manufacturer: Renesas Electronics; manufacturer pn: DG407DYZ; supplier: digikey; supplier pn: DG407DYZ-ND
footprint SOIC-28
pins: 1 V+, 2 DB, 3 NC, 4 S8B, 5 S7B, 6 S6B, 7 S5B, 8 S4B, 9 S3B, 10 S2B, 11 S1B, 12 GND, 13 NC, 14 NC, 15 A2, 16 A1, 17 A0, 18 EN, 19 S1A, 20 S2A, 21 S3A, 22 S4A, 23 S5A, 24 S6A, 25 S7A, 26 S8A, 27 V-, 28 DA

## DG509
designator U?, comment DG509B
IC MUX DUAL 4CHAN PREC 16-SOIC; manufacturer: Vishay; manufacturer pn: DG509BEY-T1-E3; supplier pn: DG509BEY-T1-E3CT-ND; supplier: digikey
footprint SOIC-16
pins: 1 A0, 2 EN, 3 V-, 4 S0A, 5 S1A, 6 S2A, 7 S3A, 8 DA, 9 DB, 10 S3B, 11 S2B, 12 S1B, 13 S0B, 14 V+, 15 GND, 16 A1

## Diode 1N914
designator D?
DIODE GEN PURP 100V 200MA SOT23; manufacturer: On Semiconductor; manufacturer pn: MMBD914LT3G; supplier pn: MMBD914LT3GOSCT-ND; supplier: digikey
footprint SOT-23
simulation model 1N914 (DIODE)
pins: 1 K, 2 A

## dual_banana
designator P?
dual banana jack; bolt-on; manufacturer: Mueller Electric Co; manufacturer pn: BU-P2269; supplier: digikey; supplier pn: 314-1204-ND
pins: 1, 2

## FilterParts
designator U?
connection point for socketed thru-hole parts
footprint DIP-14 (DIP; 14 Leads; Row Spacing 7.62 mm; Pitch 2.54 mm)
pins: 1 REF, 2 IN+, 3 IN-, 4 GND, 5 ~{CS}, 6 DOUT, 7 CLK, 8 VDD, 9, 10, 11, 12, 13, 14

## Header 1
designator P?, comment Hdr1
Header, Single-Pin
footprint tp_header_pin (thru-hole header pin for testpoint)
signal-integrity model Connector
pins: 1

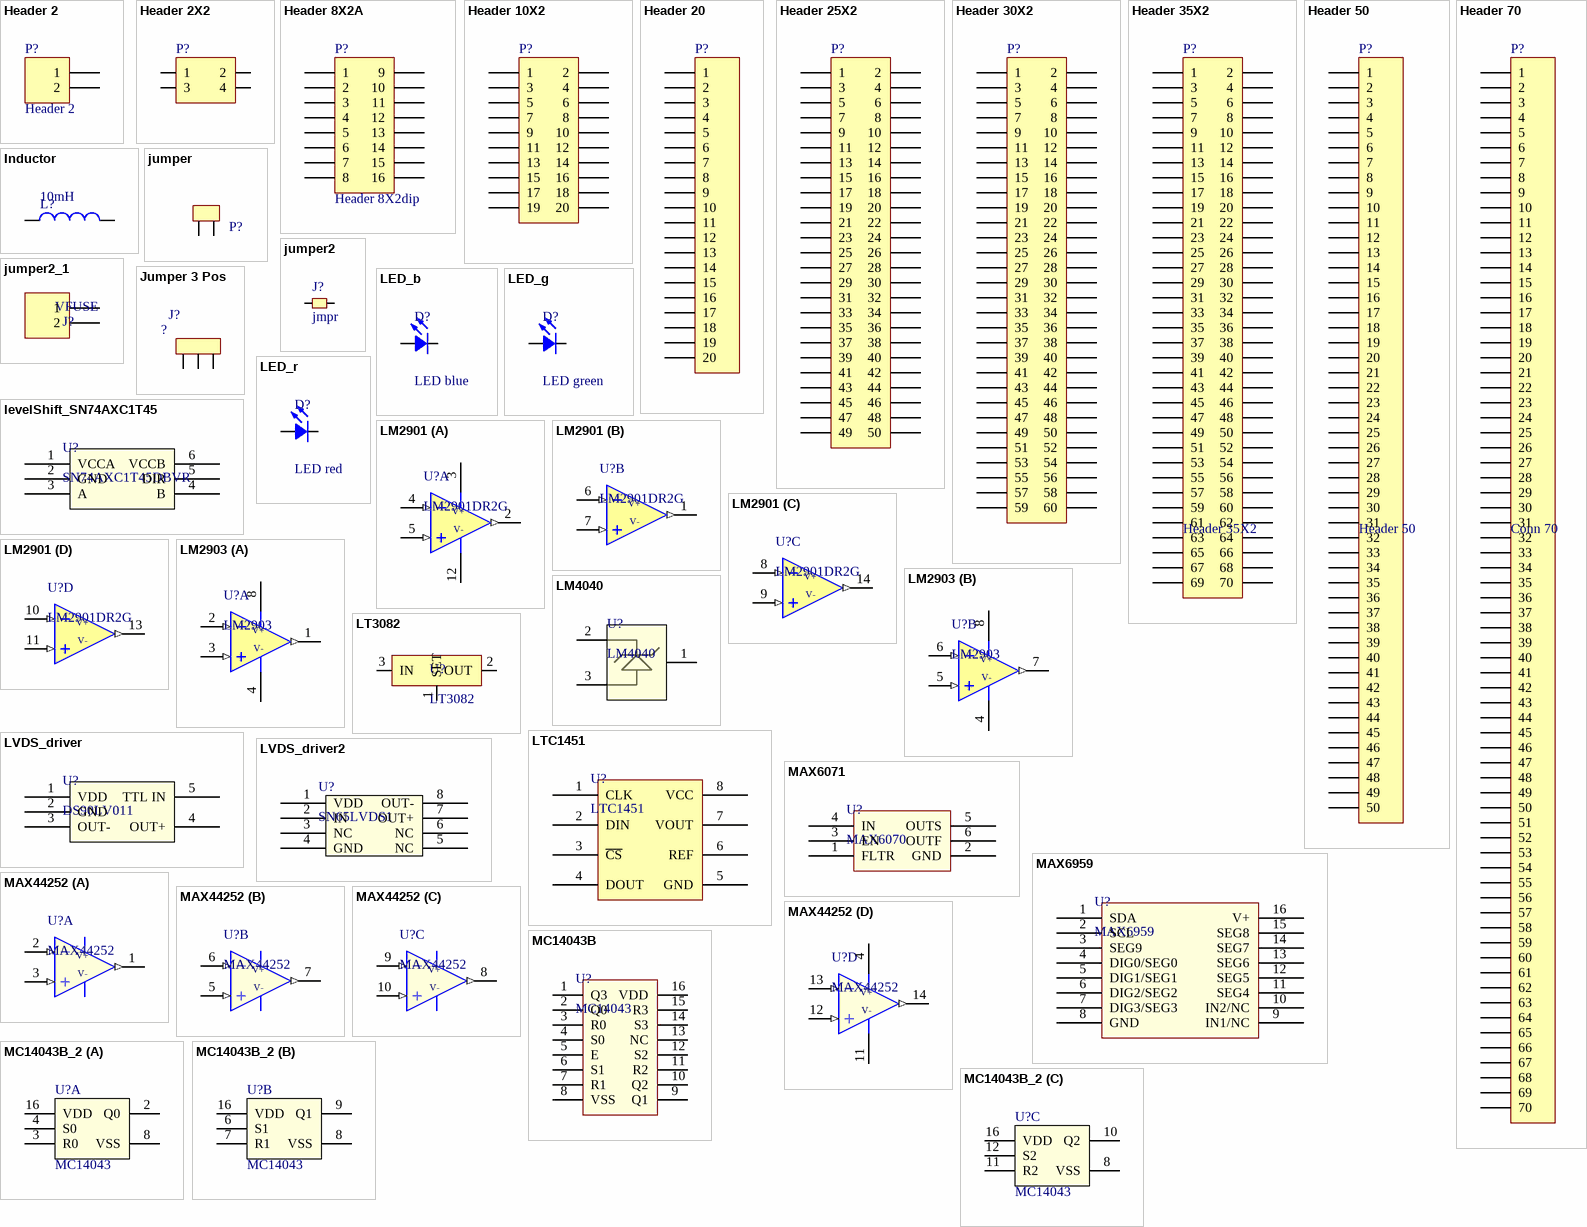
[diagram p3: symbols Header 2 to MC14043B_2]

## Header 2
designator P?
Header, 2-Pin; LatestRevisionDate: 17-Jul-2002; LatestRevisionNote: Re-released for DXP Platform.; Publisher: Altium Limited
footprint HDR1X2 (Connector; Header; 2 Position)
signal-integrity model Connector
pins: 1, 2

## Header 2X2
designator P?
Header, 2-Pin, Dual row; LatestRevisionDate: 17-Jul-2002; LatestRevisionNote: Re-released for DXP Platform.; Publisher: Altium Limited
footprint HDR2X2 (Connector; Header; 2x2 Position)
signal-integrity model Connector
pins: 1, 2, 3, 4

## Header 8X2A
designator P?, comment Header 8X2dip
Header, 8-Pin, Dual row
pins: 1, 2, 3, 4, 5, 6, 7, 8, 9, 10, 11, 12, 13, 14, 15, 16

## Header 10X2
designator P?
Header, 10-Pin, Dual row; LatestRevisionDate: 17-Jul-2002; LatestRevisionNote: Re-released for DXP Platform.; Publisher: Altium Limited
footprint HDR2X10 (Connector; Header; 10x2 Position)
signal-integrity model Connector
pins: 1, 2, 3, 4, 5, 6, 7, 8, 9, 10, 11, 12, 13, 14, 15, 16, 17, 18, 19, 20

## Header 20
designator P?
Header, 20-Pin; LatestRevisionDate: 17-Jul-2002; LatestRevisionNote: Re-released for DXP Platform.; Publisher: Altium Limited
footprint HDR1X20 (Connector; Header; 20 Position)
signal-integrity model Connector
pins: 1, 2, 3, 4, 5, 6, 7, 8, 9, 10, 11, 12, 13, 14, 15, 16, 17, 18, 19, 20

## Header 25X2
designator P?
Header, 25-Pin, Dual row; LatestRevisionDate: 17-Jul-2002; LatestRevisionNote: Re-released for DXP Platform.; Publisher: Altium Limited
footprint HDR2X25 (Connector; Header; 25x2 Position)
signal-integrity model Connector
pins: 1, 2, 3, 4, 5, 6, 7, 8, 9, 10, 11, 12, 13, 14, 15, 16, 17, 18, 19, 20, 21, 22, 23, 24, 25, 26, 27, 28, 29, 30, 31, 32, 33, 34, 35, 36, 37, 38, 39, 40, 41, 42, 43, 44, 45, 46, 47, 48, 49, 50

## Header 30X2
designator P?
Header, 30-Pin, Dual row; LatestRevisionDate: 17-Jul-2002; LatestRevisionNote: Re-released for DXP Platform.; Publisher: Altium Limited
footprint HDR2X30 (Connector; Header; 30x2 Position)
signal-integrity model Connector
pins: 1, 2, 3, 4, 5, 6, 7, 8, 9, 10, 11, 12, 13, 14, 15, 16, 17, 18, 19, 20, 21, 22, 23, 24, 25, 26, 27, 28, 29, 30, 31, 32, 33, 34, 35, 36, 37, 38, 39, 40, 41, 42, 43, 44, 45, 46, 47, 48, 49, 50, 51, 52, 53, 54, 55, 56, 57, 58, 59, 60

## Header 35X2
designator P?
Header, 35-Pin, Dual row; LatestRevisionDate: 17-Jul-2002; LatestRevisionNote: Re-released for DXP Platform.; Publisher: Altium Limited
footprint HDR2X30 (Connector; Header; 30x2 Position)
signal-integrity model Connector
pins: 1, 2, 3, 4, 5, 6, 7, 8, 9, 10, 11, 12, 13, 14, 15, 16, 17, 18, 19, 20, 21, 22, 23, 24, 25, 26, 27, 28, 29, 30, 31, 32, 33, 34, 35, 36, 37, 38, 39, 40, 41, 42, 43, 44, 45, 46, 47, 48, 49, 50, 51, 52, 53, 54, 55, 56, 57, 58, 59, 60, 61, 62, 63, 64, 65, 66, 67, 68, 69, 70

## Header 50
designator P?
Header, 50-Pin; LatestRevisionDate: 17-Jul-2002; LatestRevisionNote: Re-released for DXP Platform.; Publisher: Altium Limited
footprint HDR1X30 (Connector; Header; 30 Position)
signal-integrity model Connector
pins: 1, 2, 3, 4, 5, 6, 7, 8, 9, 10, 11, 12, 13, 14, 15, 16, 17, 18, 19, 20, 21, 22, 23, 24, 25, 26, 27, 28, 29, 30, 31, 32, 33, 34, 35, 36, 37, 38, 39, 40, 41, 42, 43, 44, 45, 46, 47, 48, 49, 50

## Header 70
designator P?, comment Conn 70
Connector, 70-Pin; LatestRevisionDate: 17-Jul-2002; LatestRevisionNote: Re-released for DXP Platform.; Publisher: Altium Limited
pins: 1, 2, 3, 4, 5, 6, 7, 8, 9, 10, 11, 12, 13, 14, 15, 16, 17, 18, 19, 20, 21, 22, 23, 24, 25, 26, 27, 28, 29, 30, 31, 32, 33, 34, 35, 36, 37, 38, 39, 40, 41, 42, 43, 44, 45, 46, 47, 48, 49, 50, 51, 52, 53, 54, 55, 56, 57, 58, 59, 60, 61, 62, 63, 64, 65, 66, 67, 68, 69, 70

## Inductor
designator L?  value 10mH  (hidden comment: Inductor)
pins: 1, 2

## jumper
designator P?  (value not drawn)
2-pin jumper
footprint HDR_1X2 (Connector; Header; 2 Position)
pins: 1, 2

## jumper2
designator J?, comment jmpr
2-pin jumper
pins: 1, 2

## jumper2_1
designator J?, comment VFUSE
CONN HEADER VERT 2POS 2.54MM; manufacturer: Wurth Elektronik; manufacturer pn: 61300211121; supplier pn: 732-5315-ND; supplier: digikey
footprint HDR_1X2
pins: 1, 2

## Jumper 3 Pos
designator J?, comment ?
CONN HEADER 36POS .100 VERT TIN; manufacturer: Molex; manufacturer pn: 0022284361; supplier: digikey; supplier pn: WM50017-36-ND
footprint tp_header
footprint HDR1X3 (Connector; Header; 3 Position)
pins: 1, 2, 3

## LED_b
designator D?, comment LED blue
LED BLUE CLEAR 0603 SMD; manufacturer: Wurth Electronics Inc; manufacturer pn: 150060GS75000; supplier: digikey; supplier pn: 732-4971-1-ND
footprint 0603_d (0603 diode, cathode on pin2)
pins: 1 A, 2 K

## LED_g
designator D?, comment LED green
LED GREEN CLEAR 0603 SMD; manufacturer: Wurth Electronics Inc; manufacturer pn: 150060GS75000; Ibias: ?mA; supplier: digikey; supplier pn: 732-4971-1-ND
footprint 0603_d (0603 diode, cathode on pin2)
pins: 1 A, 2 K

## LED_r
designator D?, comment LED red
LED RED CLEAR 0603 SMD; manufacturer: Wurth Electronics Inc; manufacturer pn: 150060RS75000; supplier: digikey; supplier pn: 732-4978-1-ND
footprint 0603_d (0603 diode, cathode on pin2)
pins: 1 A, 2 K

## levelShift_SN74AXC1T45
designator U?, comment SN74AXC1T45DBVR
IC TRNSLTR BIDIRECTIONAL SOT23-6; manufacturer: Texas Instruments; supplier: digikey; supplier pn: 296-47598-1-ND; manufacturer pn: SN74AXC1T45DBVR
footprint SOT23-6 (Footprint not found)
pins: 1 VCCA "zener diode cathode", 2 GND "zener diode cathode", 3 A "zener diode cathode", 4 B "zener diode cathode", 5 DIR "zener diode cathode", 6 VCCB "zener diode cathode"

## LM2901
designator U?, comment LM2901DR2G
IC COMP QUAD SGL SUPPLY 14SOIC; manufacturer: onsemi; supplier pn: LM2901DR2GOSCT-ND; supplier: digikey; manufacturer pn: LM2901DR2G
footprint SOIC-14 (SOIC, 14-Leads, Body 8.65x3.9mm, Pitch 1.27mm, IPC Medium Density)
part A pins: 2 OUT (out), 3 +VS (power), 4 -IN (in), 5 +IN (in), 12 -VS (power)
part B pins: 1 OUT (out), 6 -IN (in), 7 +IN (in)
part C pins: 8 -IN (in), 9 +IN (in), 14 OUT (out)
part D pins: 10 -IN (in), 11 +IN (in), 13 OUT (out)
part A text: V+; V-
part B text: V+; V-
part C text: V+; V-
part D text: V+; V-

## LM2903
designator U?
IC COMPARATOR 2 GEN PUR 8SOIC; manufacturer: ON Semiconductor; manufacturer pn: LM2903EDR2G; supplier pn: LM2903EDR2GOSCT-ND; supplier: digikey
footprint SOIC-8 (SOIC, 8-Leads, Pitch 1.27mm, IPC Medium Density)
part A pins: 1 OUT (out), 2 -IN (in), 3 +IN (in), 4 -VS (power), 8 +VS (power)
part B pins: 4 -VS (power), 5 +IN (in), 6 -IN (in), 7 OUT (out), 8 +VS (power)
part A text: V+; V-
part B text: V+; V-

## LM4040
designator U?
IC VREF SHUNT 0.1% SOT23-3; manufacturer pn: LM4040AIM3-4.1/NOPB; manufacturer: TI; supplier pn: LM4040AIM3-4.1/NOPBCT-ND; supplier: digikey
footprint SOT-23
pins: 1 NC "zener diode cathode", 2 K "zener diode cathode", 3 A "zener diode cathode"

## LT3082
designator U?
IC REG LIN POS ADJ 200MA SOT223; manufacturer: Linear Technology; manufacturer pn: LT3082EST#TRPBF; supplier: digikey; supplier pn: LT3082EST#TRPBFCT-ND
pins: 1 SET, 2 OUT, 3 IN

## LTC1451
designator U?
IC D/A CONV 12BIT R-R 8-SOIC; manufacturer pn: LTC1451CS8#PBF; manufacturer: Linear Technology; supplier pn: LTC1451CS8#PBF-ND; supplier: digikey
pins: 1 CLK, 2 DIN, 3 ~{CS}, 4 DOUT, 5 GND, 6 REF, 7 VOUT, 8 VCC

## LVDS_driver
designator U?, comment DS90LV011
IC DRIVER 1/0 SOT23-5; manufacturer pn: DS90LV011ATMF; manufacturer: Texas Instruments; supplier pn: DS90LV011ATMFCT-ND; supplier: digikey
footprint SOT23-5 (Footprint not found)
pins: 1 VDD "zener diode cathode", 2 GND "zener diode cathode", 3 OUT- "zener diode cathode", 4 OUT+ "zener diode cathode", 5 TTL IN "zener diode cathode"

## LVDS_driver2
designator U?, comment SN65LVDS1
IC LVDS DRIVER 1/0 8SOIC; manufacturer pn: SN65LVDS1DR; manufacturer: Texas Instruments; supplier pn: 296-46331-1-ND; supplier: digikey
footprint SOIC-8 (SOIC, 8-Leads, Pitch 1.27mm, IPC Medium Density)
pins: 1 VDD "zener diode cathode", 2 IN "zener diode cathode", 3 NC, 4 GND, 5 NC, 6 NC, 7 OUT+ "zener diode cathode", 8 OUT- "zener diode cathode"

## MAX6071
designator U?, comment MAX6070
Voltage Ref 1.25V ±0.08% 10mA SOT-6; manufacturer: Maxim; manufacturer pn: MAX6070BAUT12+T; supplier pn: MAX6070BAUT12+TCT-ND; supplier: digikey
footprint SOT23-6
pins: 1 FLTR, 2 GND, 3 EN, 4 IN, 5 OUTS, 6 OUTF

## MAX6959
designator U?
IC DRVR 7 SEGMNT 4 DIGIT 16QSOP; manufacturer: Maxim Integrated; manufacturer pn: MAX6959AAEE+; supplier pn: MAX6959AAEE+-ND; supplier: digikey
footprint SOIC-16_W (SOIC 16-pin wide body)
pins: 1 SDA, 2 SCL, 3 SEG9, 4 DIG0/SEG0, 5 DIG1/SEG1, 6 DIG2/SEG2, 7 DIG3/SEG3, 8 GND, 9 IN1/NC, 10 IN2/NC, 11 SEG4, 12 SEG5, 13 SEG6, 14 SEG7, 15 SEG8, 16 V+

## MAX44252
designator U?
Zero-Drift Amplifier 4 Circuit Rail-to-Rail 14-SOIC; manufacturer: Maxim Integrated; manufacturer pn: MAX44252ASD+; supplier pn: MAX44252ASD+-ND; supplier: digikey
footprint SOIC-14 (SOIC, 14-Leads, Body 8.65x3.9mm, Pitch 1.27mm, IPC Medium Density)
part A pins: 1 OUT (out), 2 -IN (in), 3 +IN (in)
part B pins: 5 +IN (in), 6 -IN (in), 7 OUT (out)
part C pins: 8 OUT (out), 9 -IN (in), 10 +IN (in)
part D pins: 4 +VS (power), 11 -VS (power), 12 +IN (in), 13 -IN (in), 14 OUT (out)
part A text: V+; V-
part B text: V+; V-
part C text: V+; V-
part D text: V+; V-

## MC14043B
designator U?, comment MC14043
IC LATCH R-S QUAD P/N 16-SOIC; manufacturer: onsemi; manufacturer pn: MC14043BDR2G; supplier pn: MC14043BDR2GOSCT-ND; supplier: digikey
footprint SOIC-16
pins: 1 Q3, 2 Q0, 3 R0, 4 S0, 5 E, 6 S1, 7 R1, 8 VSS, 9 Q1, 10 Q2, 11 R2, 12 S2, 13 NC, 14 S3, 15 R3, 16 VDD

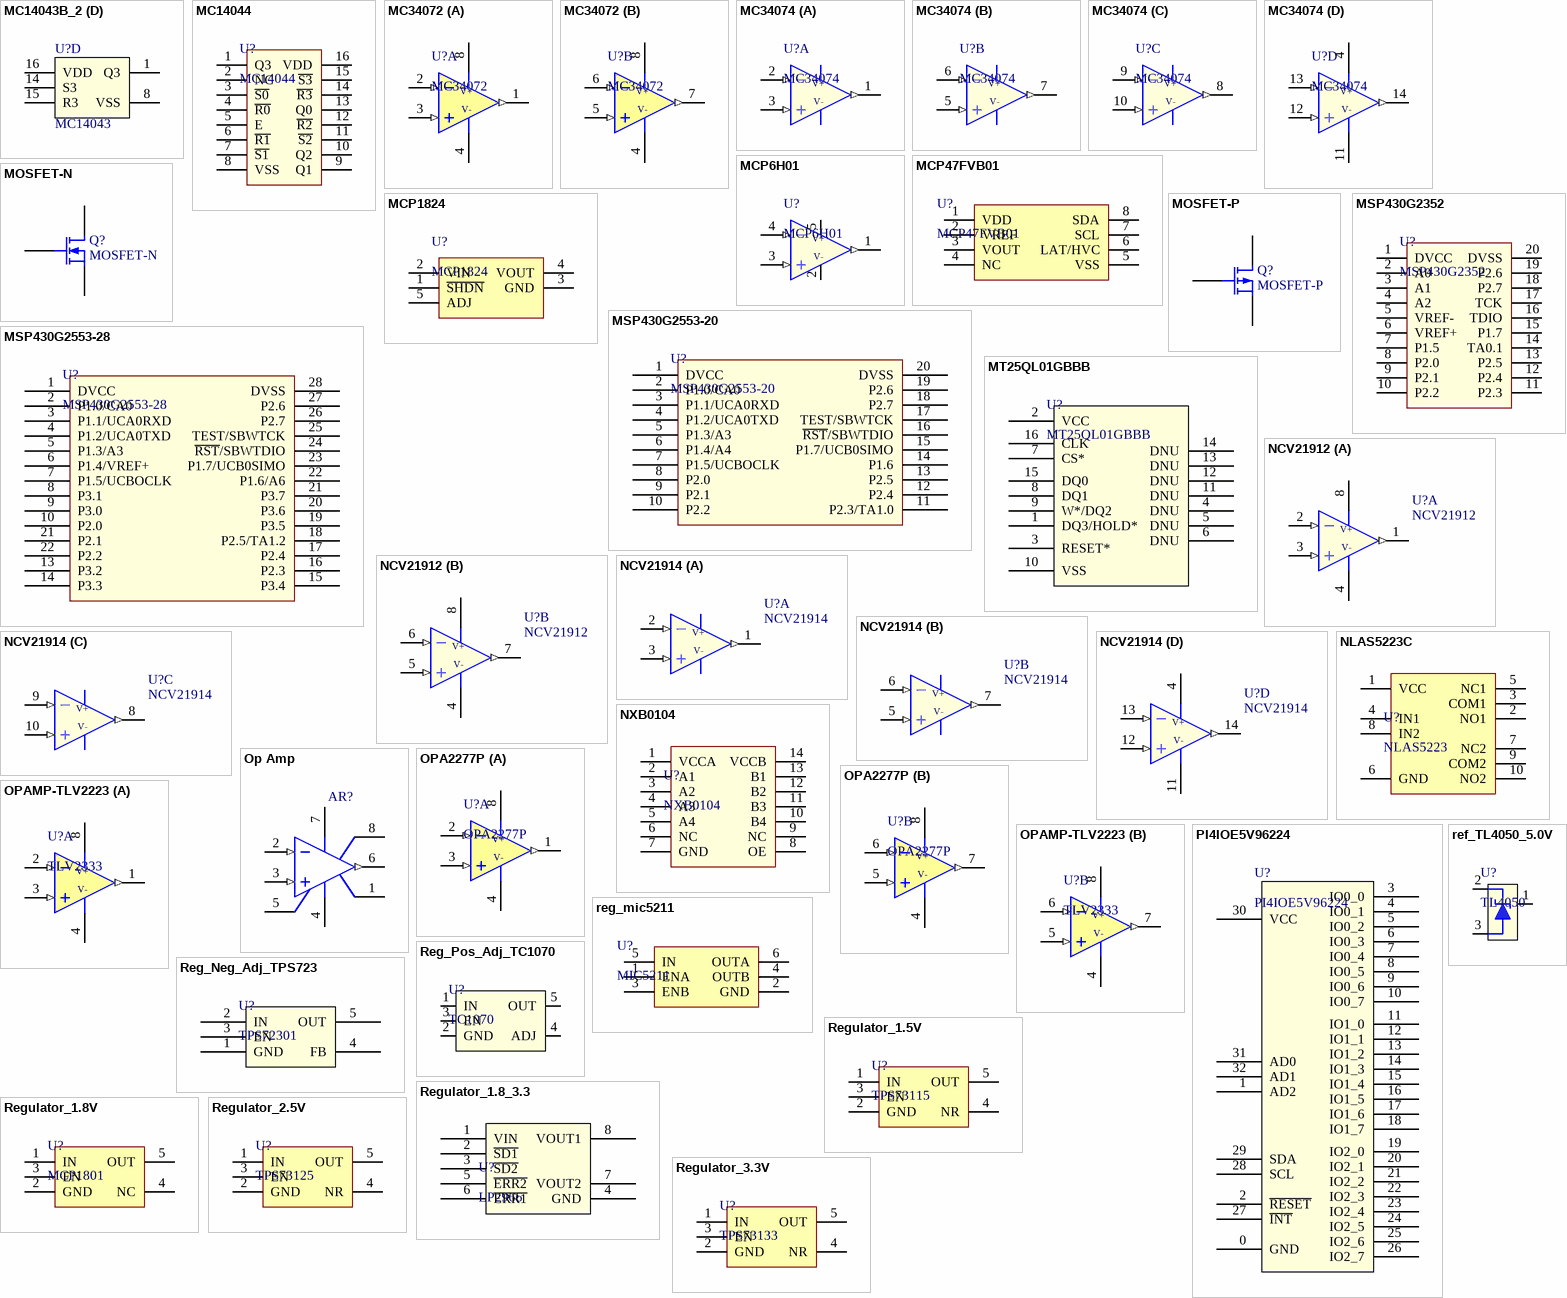
[diagram p4: symbols MC14043B_2 to Regulator_3.3V]

## MC14043B_2
designator U?, comment MC14043
IC LATCH R-S QUAD P/N 16-SOIC; manufacturer: onsemi; manufacturer pn: MC14043BDR2G; supplier pn: MC14043BDR2GOSCT-ND; supplier: digikey
footprint SOIC-16
part A pins: 2 Q0, 3 R0, 4 S0, 8 VSS, 16 VDD
part B pins: 6 S1, 7 R1, 8 VSS, 9 Q1, 16 VDD
part C pins: 8 VSS, 10 Q2, 11 R2, 12 S2, 16 VDD
part D pins: 1 Q3, 8 VSS, 14 S3, 15 R3, 16 VDD

## MC14044
designator U?
IC LATCH R-S QUAD P/N 16-SOIC; manufacturer: onsemi; manufacturer pn: MC14044BDG; supplier: digikey; supplier pn: MC14044BDGOS-ND
footprint SOIC-16
pins: 1 Q3, 2 NC, 3 ~{S0}, 4 ~{R0}, 5 E, 6 ~{R1}, 7 ~{S1}, 8 VSS, 9 Q1, 10 Q2, 11 ~{S2}, 12 ~{R2}, 13 Q0, 14 ~{R3}, 15 ~{S3}, 16 VDD

## MC34072
designator U?
IC OPAMP GP 4.5MHZ 8SOIC; manufacturer: ON Semiconductor; manufacturer pn: MC34072DR2G; supplier pn: MC34072DR2GOSCT-ND; supplier: digikey
footprint SOIC-8 (SOIC, 8-Leads, Pitch 1.27mm, IPC Medium Density)
part A pins: 1 OUT (out), 2 -IN (in), 3 +IN (in), 4 -VS (power), 8 +VS (power)
part B pins: 4 -VS (power), 5 +IN (in), 6 -IN (in), 7 OUT (out), 8 +VS (power)
part A text: V+; V-
part B text: V+; V-

## MC34074
designator U?
IC OPAMP GP 4.5MHZ 14SOIC; manufacturer: ON Semiconductor; manufacturer pn: MC34074VDR2G; supplier pn: MC34074VDR2GOSCT-ND; supplier: digikey
footprint SOIC-14 (SOIC, 14-Leads, Body 8.65x3.9mm, Pitch 1.27mm, IPC Medium Density)
part A pins: 1 OUT (out), 2 -IN (in), 3 +IN (in)
part B pins: 5 +IN (in), 6 -IN (in), 7 OUT (out)
part C pins: 8 OUT (out), 9 -IN (in), 10 +IN (in)
part D pins: 4 +VS (power), 11 -VS (power), 12 +IN (in), 13 -IN (in), 14 OUT (out)
part A text: V+; V-
part B text: V+; V-
part C text: V+; V-
part D text: V+; V-

## MCP6H01
designator U?
IC OPAMP GP 1 CIRCUIT SOT23-5; manufacturer: Microchip Technology; manufacturer pn: MCP6H01T-E/OT; supplier pn: MCP6H01T-E/OTCT-ND; supplier: digikey
footprint SOT23-5
pins: 1 OUT (out), 2 VSS, 3 +IN (in), 4 -IN (in), 5 VDD
text: V+; V-

## MCP47FVB01
designator U?
IC DAC 8BIT V-OUT 8TSSOP; manufacturer: Microchip Technology; manufacturer pn: MCP47FVB01A0-E/ST; supplier pn: MCP47FVB01A0-E/ST-ND; supplier: digikey
footprint TSSOP-20
pins: 1 VDD, 2 VREF, 3 VOUT, 4 NC, 5 VSS, 6 LAT/HVC, 7 SCL, 8 SDA

## MCP1824
designator U?
IC REG LINEAR 0.8V 300MA SOT23-5; manufacturer pn: MCP1824T-0802E/OT; manufacturer: Microchip Technology; supplier pn: MCP1824T-0802E/OTCT-ND; supplier: digikey
footprint SOT23-5
pins: 1 ~{SHDN}, 2 VIN, 3 GND, 4 VOUT, 5 ADJ

## MOSFET-N
designator Q?
MOSFET N-CH 60V 0.2A; manufacturer: Toshiba; manufacturer pn: T2N7002AK,LM; supplier: digikey; supplier pn: T2N7002AKLMCT-ND
footprint SOT-23
pins: 1 D, 2 G, 3 S

## MOSFET-P
designator Q?
MOSFET P-CH 20V 460MA SOT523; manufacturer: Diodes Inc; manufacturer pn: DMG1013T-7; supplier: digikey; supplier pn: DMG1013T-7DICT-ND
footprint SOT-23
pins: 1 S, 2 G, 3 D

## MSP430G2352
designator U?
IC MCU 16BIT 4KB FLASH 20TSSOP; manufacturer: Texas Instruments; manufacturer pn: MSP430G2352IPW20; supplier pn: 296-29612-5-ND; supplier: digikey
footprint TSSOP-20
pins: 1 DVCC, 2 A0, 3 A1, 4 A2, 5 VREF-, 6 VREF+, 7 P1.5, 8 P2.0, 9 P2.1, 10 P2.2, 11 P2.3, 12 P2.4, 13 P2.5, 14 TA0.1, 15 P1.7, 16 TDIO, 17 TCK, 18 P2.7, 19 P2.6, 20 DVSS

## MSP430G2553-20
designator U?
IC MCU 16BIT 16KB FLASH 20TSSOP; manufacturer: Texas Instruments; manufacturer pn: MSP430G2553IPW20R; supplier: digikey; supplier pn: 296-28430-1-ND
footprint TSSOP-20
pins: 1 DVCC, 2 P1.0/CA0, 3 P1.1/UCA0RXD, 4 P1.2/UCA0TXD, 5 P1.3/A3, 6 P1.4/A4, 7 P1.5/UCBOCLK, 8 P2.0, 9 P2.1, 10 P2.2, 11 P2.3/TA1.0, 12 P2.4, 13 P2.5, 14 P1.6, 15 P1.7/UCB0SIMO, 16 ~{RST}/SBWTDIO, 17 TEST/SBWTCK, 18 P2.7, 19 P2.6, 20 DVSS

## MSP430G2553-28
designator U?
IC MCU 16BIT 16KB FLASH 28TSSOP; manufacturer: Texas Instruments; manufacturer pn: MSP430G2553IPW28R; supplier: digikey; supplier pn: 296-28431-1-ND
footprint TSSOP-28
pins: 1 DVCC, 2 P1.0/CA0, 3 P1.1/UCA0RXD, 4 P1.2/UCA0TXD, 5 P1.3/A3, 6 P1.4/VREF+, 7 P1.5/UCBOCLK, 8 P3.1, 9 P3.0, 10 P2.0, 13 P3.2, 14 P3.3, 15 P3.4, 16 P2.3, 17 P2.4, 18 P2.5/TA1.2, 19 P3.5, 20 P3.6, 21 P2.1, 21 P3.7, 22 P1.6/A6, 22 P2.2, 23 P1.7/UCB0SIMO, 24 ~{RST}/SBWTDIO, 25 TEST/SBWTCK, 26 P2.7, 27 P2.6, 28 DVSS

## MT25QL01GBBB
designator U?
IC FLASH 1GBIT SPI 133MHZ 16SO; manufacturer: Micron Tech; manufacturer pn: MT25QL01GBBB8ESF-0SIT; supplier pn: 557-1789-ND; supplier: digikey
footprint SOIC-16
pins: 1 DQ3/HOLD* "zener diode cathode", 2 VCC "zener diode cathode", 3 RESET* "zener diode cathode", 4 DNU "zener diode cathode", 5 DNU "zener diode cathode", 6 DNU "zener diode cathode", 7 CS* "zener diode cathode", 8 DQ1 "zener diode cathode", 9 W*/DQ2 "zener diode cathode", 10 VSS "zener diode cathode", 11 DNU "zener diode cathode", 12 DNU "zener diode cathode", 13 DNU "zener diode cathode", 14 DNU "zener diode cathode", 15 DQ0 "zener diode cathode", 16 CLK "zener diode cathode"

## NCV21912
designator U?
IC OPAMP ZER-DRIFT 2CIRC 8SOIC; manufacturer: onsemi; manufacturer pn: NCV21912DR2G; supplier pn: 488-NCV21912DR2GCT-ND; supplier: digikey
footprint SOIC-8 (SOIC, 8-Leads, Pitch 1.27mm, IPC Medium Density)
part A pins: 1 OUT (out), 2 -IN (in), 3 +IN (in), 4 -VS (power), 8 +VS (power)
part B pins: 4 -VS (power), 5 +IN (in), 6 -IN (in), 7 OUT (out), 8 +VS (power)
part A text: V+; V-
part B text: V+; V-

## NCV21914
designator U?
IC OPAMP ZER-DRIFT 4CIRC 14TSSOP; manufacturer: onsemi; manufacturer pn: NCV21914DTBR2G; supplier pn: 488-NCV21914DTBR2GCT-ND; supplier: digikey
footprint TSSOP-14
part A pins: 1 OUT (out), 2 -IN (in), 3 +IN (in)
part B pins: 5 +IN (in), 6 -IN (in), 7 OUT (out)
part C pins: 8 OUT (out), 9 -IN (in), 10 +IN (in)
part D pins: 4 +VS (power), 11 -VS (power), 12 +IN (in), 13 -IN (in), 14 OUT (out)
part A text: V+; V-
part B text: V+; V-
part C text: V+; V-
part D text: V+; V-

## NLAS5223C
designator U?, comment NLAS5223
IC SWITCH DUAL SPDT LV 10UQFN; manufacturer: ON Semiconductor; manufacturer pn: NLAS5223CMUTAG; supplier pn: NLAS5223CMUTAGOSCT-ND; supplier: digikey
footprint UQFN-10 (Footprint not found)
pins: 1 VCC, 2 NO1, 3 COM1, 4 IN1, 5 NC1, 6 GND, 7 NC2, 8 IN2, 9 COM2, 10 NO2

## NXB0104
designator U?
IC TXRX TRANSLATING 14TSSOP; manufacturer: NXP; manufacturer pn: NXB0104PWJ; supplier pn: 1727-NXB0104PWJCT-ND; supplier: digikey
footprint TSSOP-14
pins: 1 VCCA, 2 A1, 3 A2, 4 A3, 5 A4, 6 NC, 7 GND, 8 OE, 9 NC, 10 B4, 11 B3, 12 B2, 13 B1, 14 VCCB

## Op Amp
designator AR?
FET Operational Amplifier; Published: 8-Jun-2000; LatestRevisionDate: 17-Jul-2002; LatestRevisionNote: Re-released for DXP Platform.; DatasheetVersion: REV. B; PackageVersion: 1990; PackageReference: H-08A; Publisher: Altium Limited; PackageDescription: Can; 8 Leads; Pin Circle Dia. 5.08 mm; Lead Dia. 0.53 mm (max); ComponentLink1Description: Manufacturer Link; ComponentLink1URL: http://www.analog.com/
footprint H-08A (Can; 8 Leads; Pin Circle Dia. 5.08 mm; Lead Dia. 0.53 mm (max))
simulation model AD645A (Spice Subcircuit)
pins: 1 OS NUL, 2 IN- (in), 3 IN+ (in), 4 V- (power), 5 OS NUL, 6 OUT (out), 7 V+ (power), 8 TAB

## OPA2277P
designator U?
IC OPAMP GP LOW OFFSET 2 CIRCUIT 8DIP; manufacturer: Texas Instruments; supplier pn: OPA2277P-ND; supplier: digikey; manufacturer pn: OPA2277P
footprint DIP-8 (Footprint not found)
part A pins: 1 OUT (out), 2 -IN (in), 3 +IN (in), 4 -VS (power), 8 +VS (power)
part B pins: 4 -VS (power), 5 +IN (in), 6 -IN (in), 7 OUT (out), 8 +VS (power)
part A text: V+; V-
part B text: V+; V-

## OPAMP-TLV2223
designator U?, comment TLV2333
IC OPAMP ZERO-DRIFT 2 CIRC 8SOIC; manufacturer: Texas Instruments; manufacturer pn: TLV2333IDR; supplier pn: 296-43772-1-ND; supplier: digikey
footprint SOIC-8 (SOIC, 8-Leads, Pitch 1.27mm, IPC Medium Density)
part A pins: 1 OUT (out), 2 -IN (in), 3 +IN (in), 4 -VS (power), 8 +VS (power)
part B pins: 4 -VS (power), 5 +IN (in), 6 -IN (in), 7 OUT (out), 8 +VS (power)
part A text: V+; V-
part B text: V+; V-

## PI4IOE5V96224
designator U?
IC XPNDR 1MHZ I2C SMBUS 32TQFN; manufacturer: Diodes Inc; manufacturer pn: PI4IOE5V96224ZLEX; supplier pn: PI4IOE5V96224ZLEXDICT-ND; supplier: digikey
footprint TQFN-32 (Footprint not found)
pins: 0 GND "zener diode cathode", 1 AD2 "zener diode cathode", 2 ~{RESET} "zener diode cathode", 3 IO0_0 "zener diode cathode", 4 IO0_1 "zener diode cathode", 5 IO0_2 "zener diode cathode", 6 IO0_3 "zener diode cathode", 7 IO0_4 "zener diode cathode", 8 IO0_5 "zener diode cathode", 9 IO0_6 "zener diode cathode", 10 IO0_7 "zener diode cathode", 11 IO1_0 "zener diode cathode", 12 IO1_1 "zener diode cathode", 13 IO1_2 "zener diode cathode", 14 IO1_3 "zener diode cathode", 15 IO1_4 "zener diode cathode", 16 IO1_5 "zener diode cathode", 17 IO1_6 "zener diode cathode", 18 IO1_7 "zener diode cathode", 19 IO2_0 "zener diode cathode", 20 IO2_1 "zener diode cathode", 21 IO2_2 "zener diode cathode", 22 IO2_3 "zener diode cathode", 23 IO2_4 "zener diode cathode", 24 IO2_5 "zener diode cathode", 25 IO2_6 "zener diode cathode", 26 IO2_7 "zener diode cathode", 27 ~{INT} "zener diode cathode", 28 SCL "zener diode cathode", 29 SDA "zener diode cathode", 30 VCC "zener diode cathode", 31 AD0 "zener diode cathode", 32 AD1 "zener diode cathode"

## ref_TL4050_5.0V
designator U?, comment TL4050
IC VREF SHUNT 0.2% SOT23-3; manufacturer: Texas Instruments; manufacturer pn: TL4050B50IDBZR; supplier pn: 296-22807-1-ND; supplier: digikey
footprint SOT-23
pins: 1 NC "zener diode cathode", 2 cathode "zener diode cathode", 3 cathode "zener diode cathode"

## reg_mic5211
designator U?, comment MIC5211
IC REG LINEAR 3.3V/5V SOT23-6; manufacturer: Microchip; manufacturer pn: MIC5211-LXYM6-TR; supplier: digikey; supplier pn: 576-2749-1-ND
footprint SOT23-6
pins: 1 ENA, 2 GND, 3 ENB, 4 OUTB, 5 IN, 6 OUTA

## Reg_Neg_Adj_TPS723
designator U?, comment TPS72301
IC REG LIN NEG ADJ 200MA SOT23-5; manufacturer pn: TPS72301DDCT; manufacturer: Texas Instruments; supplier pn: 296-38438-1-ND; supplier: digikey
footprint SOT23-5
pins: 1 GND, 2 IN, 3 EN, 4 FB, 5 OUT

## Reg_Pos_Adj_TC1070
designator U?, comment TC1070
IC REG LIN POS ADJ 50MA SOT23-5; manufacturer pn: TC1070VCT713; manufacturer: Microchip Technology; supplier pn: TC1070VCT713CT-ND; supplier: digikey
footprint SOT23-5
pins: 1 IN, 2 GND, 3 EN, 4 ADJ, 5 OUT

## Regulator_1.5V
designator U?, comment TPS73115
IC REG LINEAR 1.5V 150MA SOT23-5; manufacturer: Texas Instruments; manufacturer pn: TPS73115DBVR; supplier: digikey; supplier pn: 296-41769-1-ND
footprint SOT23-5
pins: 1 IN, 2 GND, 3 EN, 4 NR, 5 OUT

## Regulator_1.8_3.3
designator U?, comment LP2966
IC REG LIN 1.8/3.3V 150MA 8VSSOP; manufacturer: Texas Instruments; manufacturer pn: LP2966IMM-1833/NOPB; supplier pn: LP2966IMM-1833/NOPBCT-ND; supplier: digikey
footprint VSSOP-8 (Footprint not found)
pins: 1 VIN "zener diode cathode", 2 ~{SD1} "zener diode cathode", 3 ~{SD2} "zener diode cathode", 4 GND "zener diode cathode", 5 ~{ERR2} "zener diode cathode", 6 ~{ERR1} "zener diode cathode", 7 VOUT2 "zener diode cathode", 8 VOUT1 "zener diode cathode"

## Regulator_1.8V
designator U?, comment MCP1801
IC REG LINEAR 1.8V 150MA SOT23-5; manufacturer: Texas Instruments; manufacturer pn: MCP1801T-1802I/OT; supplier: digikey; supplier pn: MCP1801T-1802I/OTCT-ND
footprint SOT23-5
pins: 1 IN, 2 GND, 3 EN, 4 NC, 5 OUT

## Regulator_2.5V
designator U?, comment TPS73125
IC REG LINEAR 2.5V 150MA SOT23-5; manufacturer: Texas Instruments; manufacturer pn: TPS73125DBVR; supplier: digikey; supplier pn: 296-46391-1-ND
footprint SOT23-5
pins: 1 IN, 2 GND, 3 EN, 4 NR, 5 OUT

## Regulator_3.3V
designator U?, comment TPS73133
IC REG LINEAR 3.3V 150MA SOT23-5; manufacturer: Texas Instruments; manufacturer pn: TPS73133DBVR; supplier: digikey; supplier pn: 296-32553-1-ND
footprint SOT23-5
pins: 1 IN, 2 GND, 3 EN, 4 NR, 5 OUT

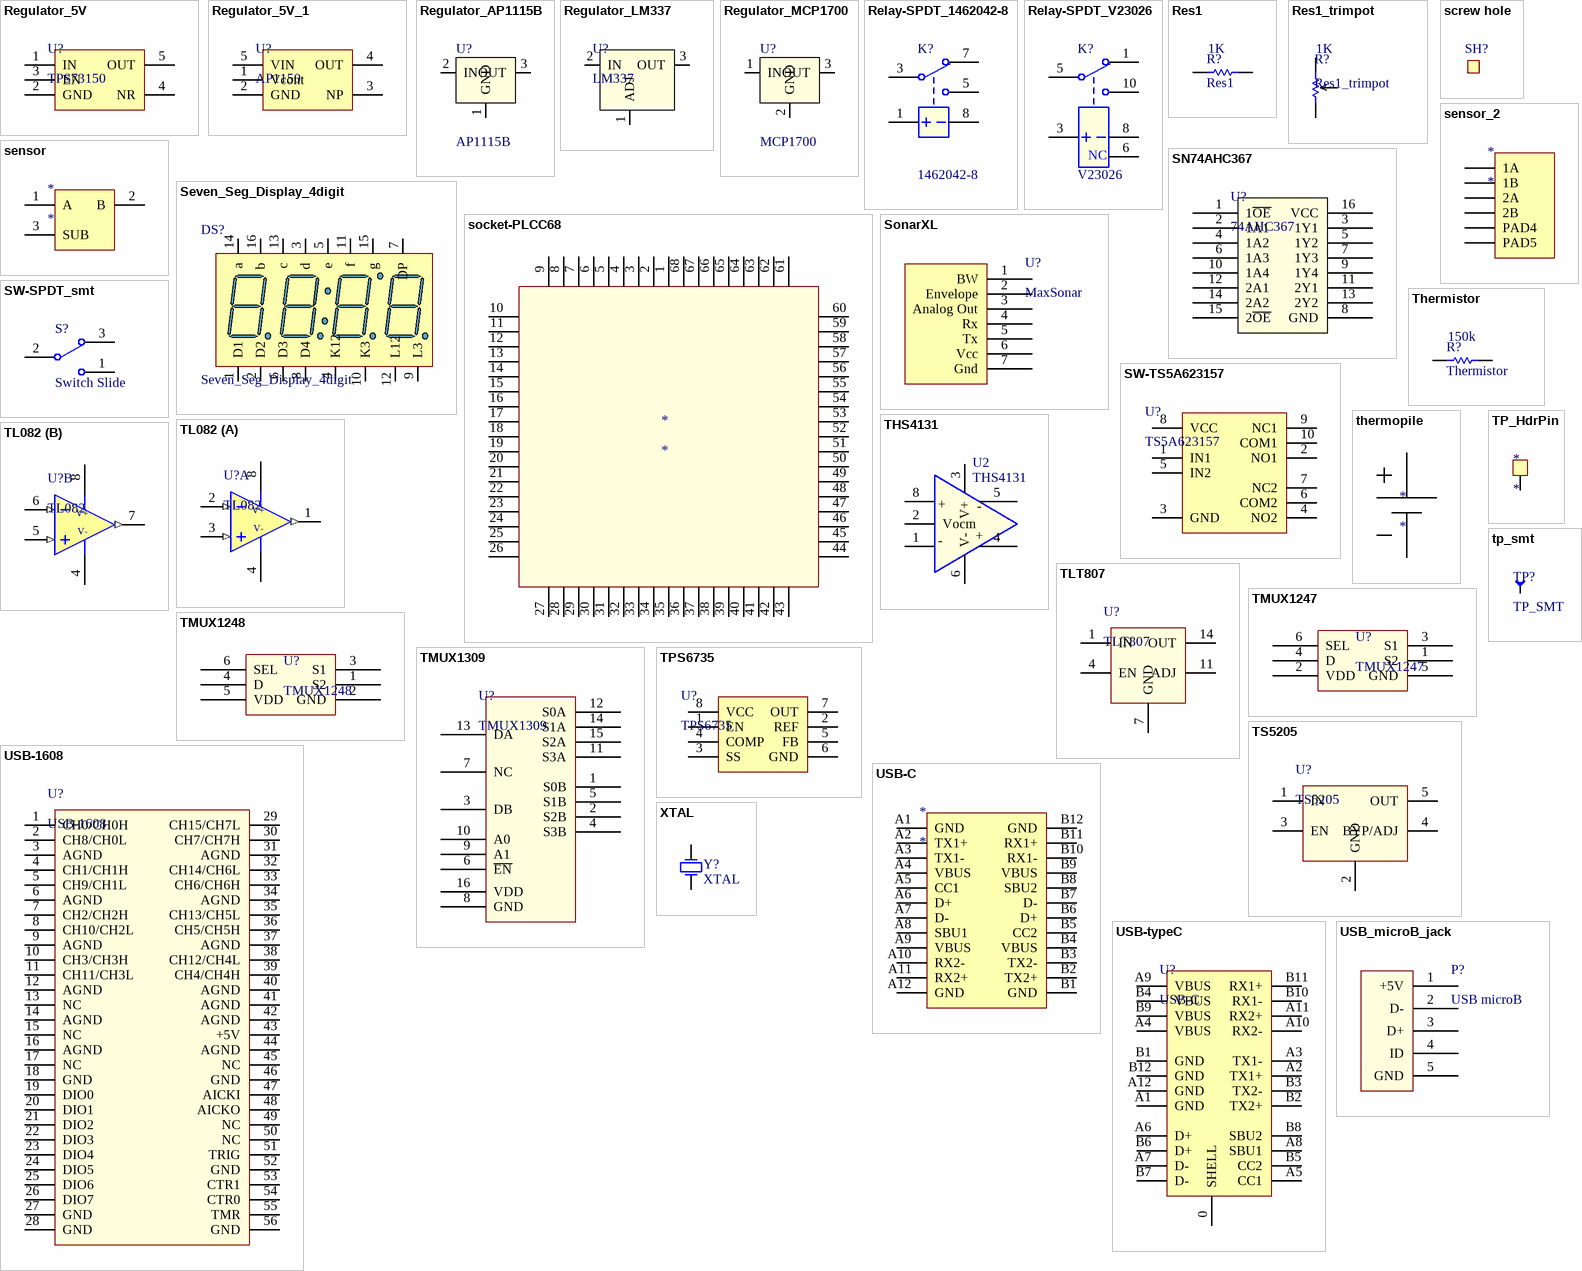
[diagram p5: symbols Regulator_5V to XTAL]

## Regulator_5V
designator U?, comment TPS73150
IC REG LINEAR 5V 150MA SOT23-5; manufacturer: Texas Instruments; manufacturer pn: TPS73150DBVR; supplier: digikey; supplier pn: 296-44366-1-ND
footprint SOT23-5
pins: 1 IN, 2 GND, 3 EN, 4 NR, 5 OUT

## Regulator_5V_1
designator U?, comment AP1150
IC REG LINEAR 5V 200MA SOT23-5; manufacturer: AKM; manufacturer pn: AP1150ADS50; supplier: digikey; supplier pn: AP1150ADS50CT-ND
footprint SOT23-5
pins: 1 Vcont, 2 GND, 3 NP, 4 OUT, 5 VIN

## Regulator_AP1115B
designator U?, comment AP1115B
IC REG LINEAR 3V 600MA SOT89-3; manufacturer: Diodes Inc; manufacturer pn: AP1115BY30L-13; supplier pn: AP1115BY30LDICT-ND; supplier: digikey
pins: 1 GND, 2 IN, 3 OUT

## Regulator_LM337
designator U?, comment LM337
IC REG LIN NEG ADJ 1.5A D2PAK-3; manufacturer: onsemi; manufacturer pn: LM337D2TR4G; supplier pn: LM337D2TR4GOSCT-NDj; supplier: digikey
footprint D2PAK
pins: 1 ADJ, 2 IN, 3 OUT

## Regulator_MCP1700
designator U?, comment MCP1700
IC REG LINEAR 2.3V 200MA SOT23-3; manufacturer: Microchip Technology; manufacturer pn: MCP1700T-2302E/TT; supplier pn: MCP1700T-2302E/TTCT-ND; supplier: digikey
footprint SOT-23
pins: 1 IN, 2 GND, 3 OUT

## Relay-SPDT_1462042-8
designator K?, comment 1462042-8
RELAY TELECOM SPDT 2A 5V; manufacturer: TE Connectivity; supplier pn: PB1249CT-ND; supplier: digikey; manufacturer pn: 1462042-8
footprint Relay_V23026 (surface mount relay SPDT)
pins: 1 coil+, 3 COM, 5 NO, 7 NC, 8 coil-

## Relay-SPDT_V23026
designator K?, comment V23026
RELAY GEN PURPOSE SPDT 1A 5VDC; manufacturer pn: V23026D1021B201 *X020; manufacturer: TE Connectivity; supplier pn: PB285CT-ND; supplier: digikey
footprint Relay_V23026 (surface mount relay SPDT)
pins: 1 NC, 3 coil+, 5 COM, 6 NC, 8 coil-, 10 NO

## Res1
designator R?  value 1K
Resistor; supplier: *; supplier pn: *; manufacturer: *; manufacturer pn: *
footprint AXIAL-0.3 (Axial Device, Thru-Hole; 2 Leads; 0.3 in Pin Spacing)
simulation model RESISTOR (Resistor)
signal-integrity model Res
pins: 1, 2

## Res1_trimpot
designator R?  value 1K
Resistor; supplier: *; supplier pn: *; manufacturer: *; manufacturer pn: *
pins: 1, 2 tap, 3

## screw hole
designator SH?  (value not drawn)
schematic symbol for adding screw hole footprint

## sensor
designator *
sognef sensor, single CNT
pins: 1 A, 2 B, 3 SUB

## sensor_2
designator *
sognef sensor, dual CNT, adhesive assembly
pins: 1A, 1B, 2A, 2B, PAD4, PAD5

## Seven_Seg_Display_4digit
designator DS?
DISP 7SEG 0.39" QUAD RED 16DIP; manufacturer: Vishay; manufacturer pn: TDCR1060M; supplier pn: TDCR1060M-ND; supplier: digikey
simulation model HDSP_503B (SUBCKT)
footprint 7-Seg_TDC (7-segment clock display Vishay TDC series)
pins: 1 D1 "Common Cathode", 2 D2 "Common Cathode", 3 d "Anode", 4 K12 "Common Cathode", 5 e "Anode", 6 D3 "Common Cathode", 7 DP "Anode", 8 D4 "Common Cathode", 9 L3 "Common Cathode", 10 K3 "Common Cathode", 11 f "Anode", 12 L12 "Common Cathode", 13 c "Anode", 14 a "Anode", 15 g "Anode", 16 b "Anode"

## SN74AHC367
designator U?, comment 74AHC367
IC BUF NON-INVERT 5.5V 16TSSOP; manufacturer: Texas Instruments; manufacturer pn: SN74AHC367PWR; supplier pn: 296-31737-1-ND; supplier: digikey
footprint TSSOP-16
pins: 1 1~{OE} "zener diode cathode", 2 1A1 "zener diode cathode", 3 1Y1 "zener diode cathode", 4 1A2 "zener diode cathode", 5 1Y2 "zener diode cathode", 6 1A3 "zener diode cathode", 7 1Y3 "zener diode cathode", 8 GND "zener diode cathode", 9 1Y4 "zener diode cathode", 10 1A4 "zener diode cathode", 11 2Y1 "zener diode cathode", 12 2A1 "zener diode cathode", 13 2Y2 "zener diode cathode", 14 2A2 "zener diode cathode", 15 2~{OE} "zener diode cathode", 16 VCC "zener diode cathode"

## socket-PLCC68
designator *
pins: 1, 2, 3, 4, 5, 6, 7, 8, 9, 10, 11, 12, 13, 14, 15, 16, 17, 18, 19, 20, 21, 22, 23, 24, 25, 26, 27, 28, 29, 30, 31, 32, 33, 34, 35, 36, 37, 38, 39, 40, 41, 42, 43, 44, 45, 46, 47, 48, 49, 50, 51, 52, 53, 54, 55, 56, 57, 58, 59, 60, 61, 62, 63, 64, 65, 66, 67, 68

## SonarXL
designator U?, comment MaxSonar
MaxSonar High Performance Sonar Range Finder; supplier: *; supplier pn: *; manufacturer: *; manufacturer pn: *
footprint SonarXL (module for object distance sensing using sonar)
pins: 1 BW, 2 Envelope, 3 Analog Out, 4 Rx, 5 Tx, 6 Vcc, 7 Gnd

## SW-SPDT_smt
designator S?, comment Switch Slide
SWITCH SLIDE SPDT 300MA 6V; manufacturer: C&K; manufacturer pn: JS102011JCQN; supplier: digikey; supplier pn: CKN10721CT-ND
footprint switch-JS102011JCQN (surface mount slide switch C&K JS series)
pins: 1, 2, 3

## SW-TS5A623157
designator U?, comment TS5A623157
IC SWITCH SPDT DUAL 10VSSOP; manufacturer: Texas Instruments; manufacturer pn: TS5A623157DGSR; supplier pn: 296-22859-1-ND; supplier: digikey
footprint MSOP-10
pins: 1 IN1, 2 NO1, 3 GND, 4 NO2, 5 IN2, 6 COM2, 7 NC2, 8 VCC, 9 NC1, 10 COM1

## Thermistor
designator R?  value 150k
THERM NTC 150KOHM 4500K 0402; manufacturer: Murata; manufacturer pn: NCP15WM154J03RC; supplier: digikey; supplier pn: 490-2405-1-ND
footprint 0402 (0402 smt)
pins: 1, 2

## thermopile
designator *
pins: 1 +, 2 -

## THS4131
designator U2
IC OPAMP DIFF 1 CIRCUIT 8SOIC; manufacturer pn: THS4131CDR; manufacturer: Texas Instruments; supplier: digikey; supplier pn: 296-46339-1-ND
footprint SOIC-8 (SOIC, 8-Leads, Pitch 1.27mm, IPC Medium Density)
pins: 1 IN-, 2 Vocm, 3 V+, 4 Vout+, 5 Vout-, 6 V-, 8 IN+
text: +; -

## TL082
designator U?
IC OPAMP JFET 2 CIRCUIT 8SOIC; manufacturer: Texas Instruments; manufacturer pn: TL082IDR; supplier pn: 296-15005-1-ND; supplier: digikey
footprint SOIC-8 (SOIC, 8-Leads, Pitch 1.27mm, IPC Medium Density)
part A pins: 1 OUT (out), 2 -IN (in), 3 +IN (in), 4 -VS (power), 8 +VS (power)
part B pins: 4 -VS (power), 5 +IN (in), 6 -IN (in), 7 OUT (out), 8 +VS (power)
part A text: V+; V-
part B text: V+; V-

## TLT807
designator U?
IC REG LIN POS ADJ 70MA TSDSO14; manufacturer: Infineon Technologies; manufacturer pn: TLT807B0EPVXUMA1; supplier pn: TLT807B0EPVXUMA1CT-ND; supplier: digikey
pins: 1 IN, 2 NC hidden, 3 NC hidden, 4 EN, 5 NC hidden, 6 NC hidden, 7 GND, 8 NC hidden, 9 NC hidden, 10 NC hidden, 11 ADJ, 12 NC hidden, 13 NC hidden, 14 OUT

## TMUX1247
designator U?
IC Switch 2:1 3Ohm SC-70-6; manufacturer: Texas Instruments; manufacturer pn: TMUX1247DCKR; supplier pn: 296-TMUX1247DCKRCT-ND; supplier: digikey
footprint SC70
pins: 1 S2, 2 VDD, 3 S1, 4 D, 5 GND, 6 SEL